# Altium schematic symbol library SYMBOL.SchLib: 147 symbols
Pins are listed as number, name and electrical type; pins without a type are passive.

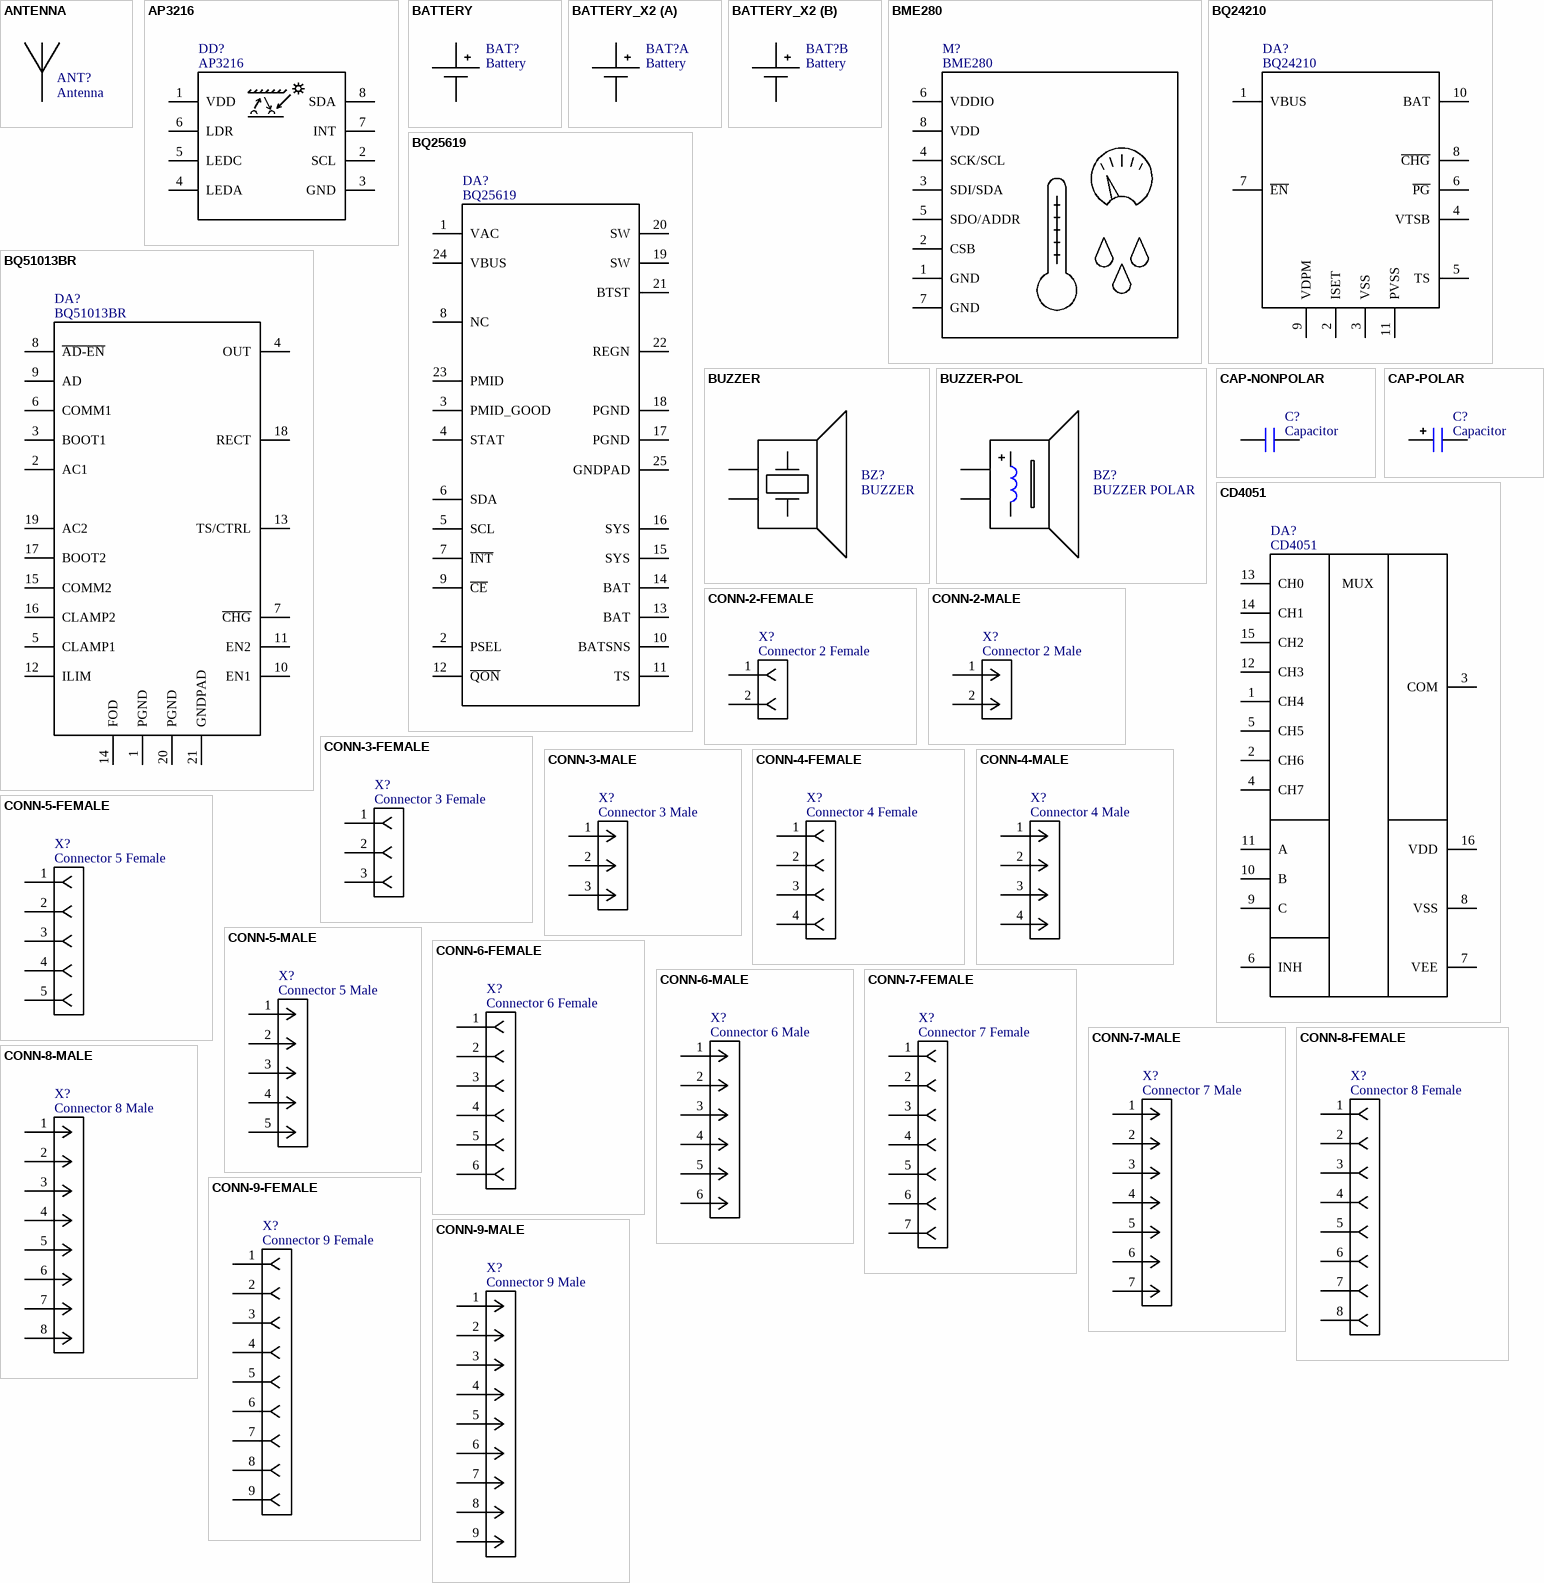
[diagram p0: symbols ANTENNA to CONN-9-MALE]

## ANTENNA
designator ANT?, comment Antenna  (no BOM)
pins: 1

## AP3216
designator DD?
Digital ambient light sensor, proximity sensor, and infrared sensor
pins: 1 VDD, 2 SCL, 3 GND, 4 LEDA, 5 LEDC, 6 LDR, 7 INT, 8 SDA

## BATTERY
designator BAT?, comment Battery
pins: 1, 2

## BATTERY_X2
designator BAT?, comment Battery
part A pins: 1, 2
part B pins: 3, 4

## BME280
designator M?
Temperature, Pressure, and Humidity sensor
pins: 1 GND, 2 CSB, 3 SDI/SDA, 4 SCK/SCL, 5 SDO/ADDR, 6 VDDIO, 7 GND, 8 VDD

## BQ24210
designator DA?
Single-Input, Single-Cell Li-Ion Battery Solar Charger
pins: 1 VBUS, 2 ISET, 3 VSS, 4 VTSB, 5 TS, 6 ~{PG}, 7 ~{EN}, 8 ~{CHG}, 9 VDPM, 10 BAT, 11 PVSS

## BQ25619
designator DA?
I2C Controlled1-Cell 1.5-A BatteryChargerwith 20-mATerminationand 1-ABoostOperation
pins: 1 VAC, 2 PSEL, 3 PMID_GOOD, 4 STAT, 5 SCL, 6 SDA, 7 ~{INT}, 8 NC, 9 ~{CE}, 10 BATSNS, 11 TS, 12 ~{QON}, 13 BAT, 14 BAT, 15 SYS, 16 SYS, 17 PGND, 18 PGND, 19 SW, 20 SW, 21 BTST, 22 REGN, 23 PMID, 24 VBUS, 25 GNDPAD

## BQ51013BR
designator DA?
Highly Integrated Wireless Receiver Qi (WPC v1.2) Compliant Power Supply
pins: 1 PGND, 2 AC1, 3 BOOT1, 4 OUT, 5 CLAMP1, 6 COMM1, 7 ~{CHG}, 8 ~{AD-EN}, 9 AD, 10 EN1, 11 EN2, 12 ILIM, 13 TS/CTRL, 14 FOD, 15 COMM2, 16 CLAMP2, 17 BOOT2, 18 RECT, 19 AC2, 20 PGND, 21 GNDPAD

## BUZZER
designator BZ?
pins: 1, 2

## BUZZER-POL
designator BZ?, comment BUZZER POLAR
pins: 1, 2

## CAP-NONPOLAR
designator C?, comment Capacitor
Capacitor non-polar
pins: 1, 2

## CAP-POLAR
designator C?, comment Capacitor
Capacitor polar
pins: 1 P, 2 N

## CD4051
designator DA?
CMOS one 8-channel multiplexer.
pins: 1 CH4, 2 CH6, 3 COM, 4 CH7, 5 CH5, 6 INH, 7 VEE, 8 VSS, 9 C, 10 B, 11 A, 12 CH3, 13 CH0, 14 CH1, 15 CH2, 16 VDD
text: MUX

## CONN-2-FEMALE
designator X?, comment Connector 2 Female
2-pin female connector
pins: 1, 2

## CONN-2-MALE
designator X?, comment Connector 2 Male
2-pin male connector
pins: 1, 2

## CONN-3-FEMALE
designator X?, comment Connector 3 Female
3-pin female connector
pins: 1, 2, 3

## CONN-3-MALE
designator X?, comment Connector 3 Male
3-pin male connector
pins: 1, 2, 3

## CONN-4-FEMALE
designator X?, comment Connector 4 Female
4-pin female connector
pins: 1, 2, 3, 4

## CONN-4-MALE
designator X?, comment Connector 4 Male
4-pin male connector
pins: 1, 2, 3, 4

## CONN-5-FEMALE
designator X?, comment Connector 5 Female
5-pin female connector
pins: 1, 2, 3, 4, 5

## CONN-5-MALE
designator X?, comment Connector 5 Male
5-pin male connector
pins: 1, 2, 3, 4, 5

## CONN-6-FEMALE
designator X?, comment Connector 6 Female
6-pin female connector
pins: 1, 2, 3, 4, 5, 6

## CONN-6-MALE
designator X?, comment Connector 6 Male
6-pin male connector
pins: 1, 2, 3, 4, 5, 6

## CONN-7-FEMALE
designator X?, comment Connector 7 Female
7-pin female connector
pins: 1, 2, 3, 4, 5, 6, 7

## CONN-7-MALE
designator X?, comment Connector 7 Male
7-pin male connector
pins: 1, 2, 3, 4, 5, 6, 7

## CONN-8-FEMALE
designator X?, comment Connector 8 Female
8-pin female connector
pins: 1, 2, 3, 4, 5, 6, 7, 8

## CONN-8-MALE
designator X?, comment Connector 8 Male
8-pin male connector
pins: 1, 2, 3, 4, 5, 6, 7, 8

## CONN-9-FEMALE
designator X?, comment Connector 9 Female
9-pin female connector
pins: 1, 2, 3, 4, 5, 6, 7, 8, 9

## CONN-9-MALE
designator X?, comment Connector 9 Male
9-pin male connector
pins: 1, 2, 3, 4, 5, 6, 7, 8, 9

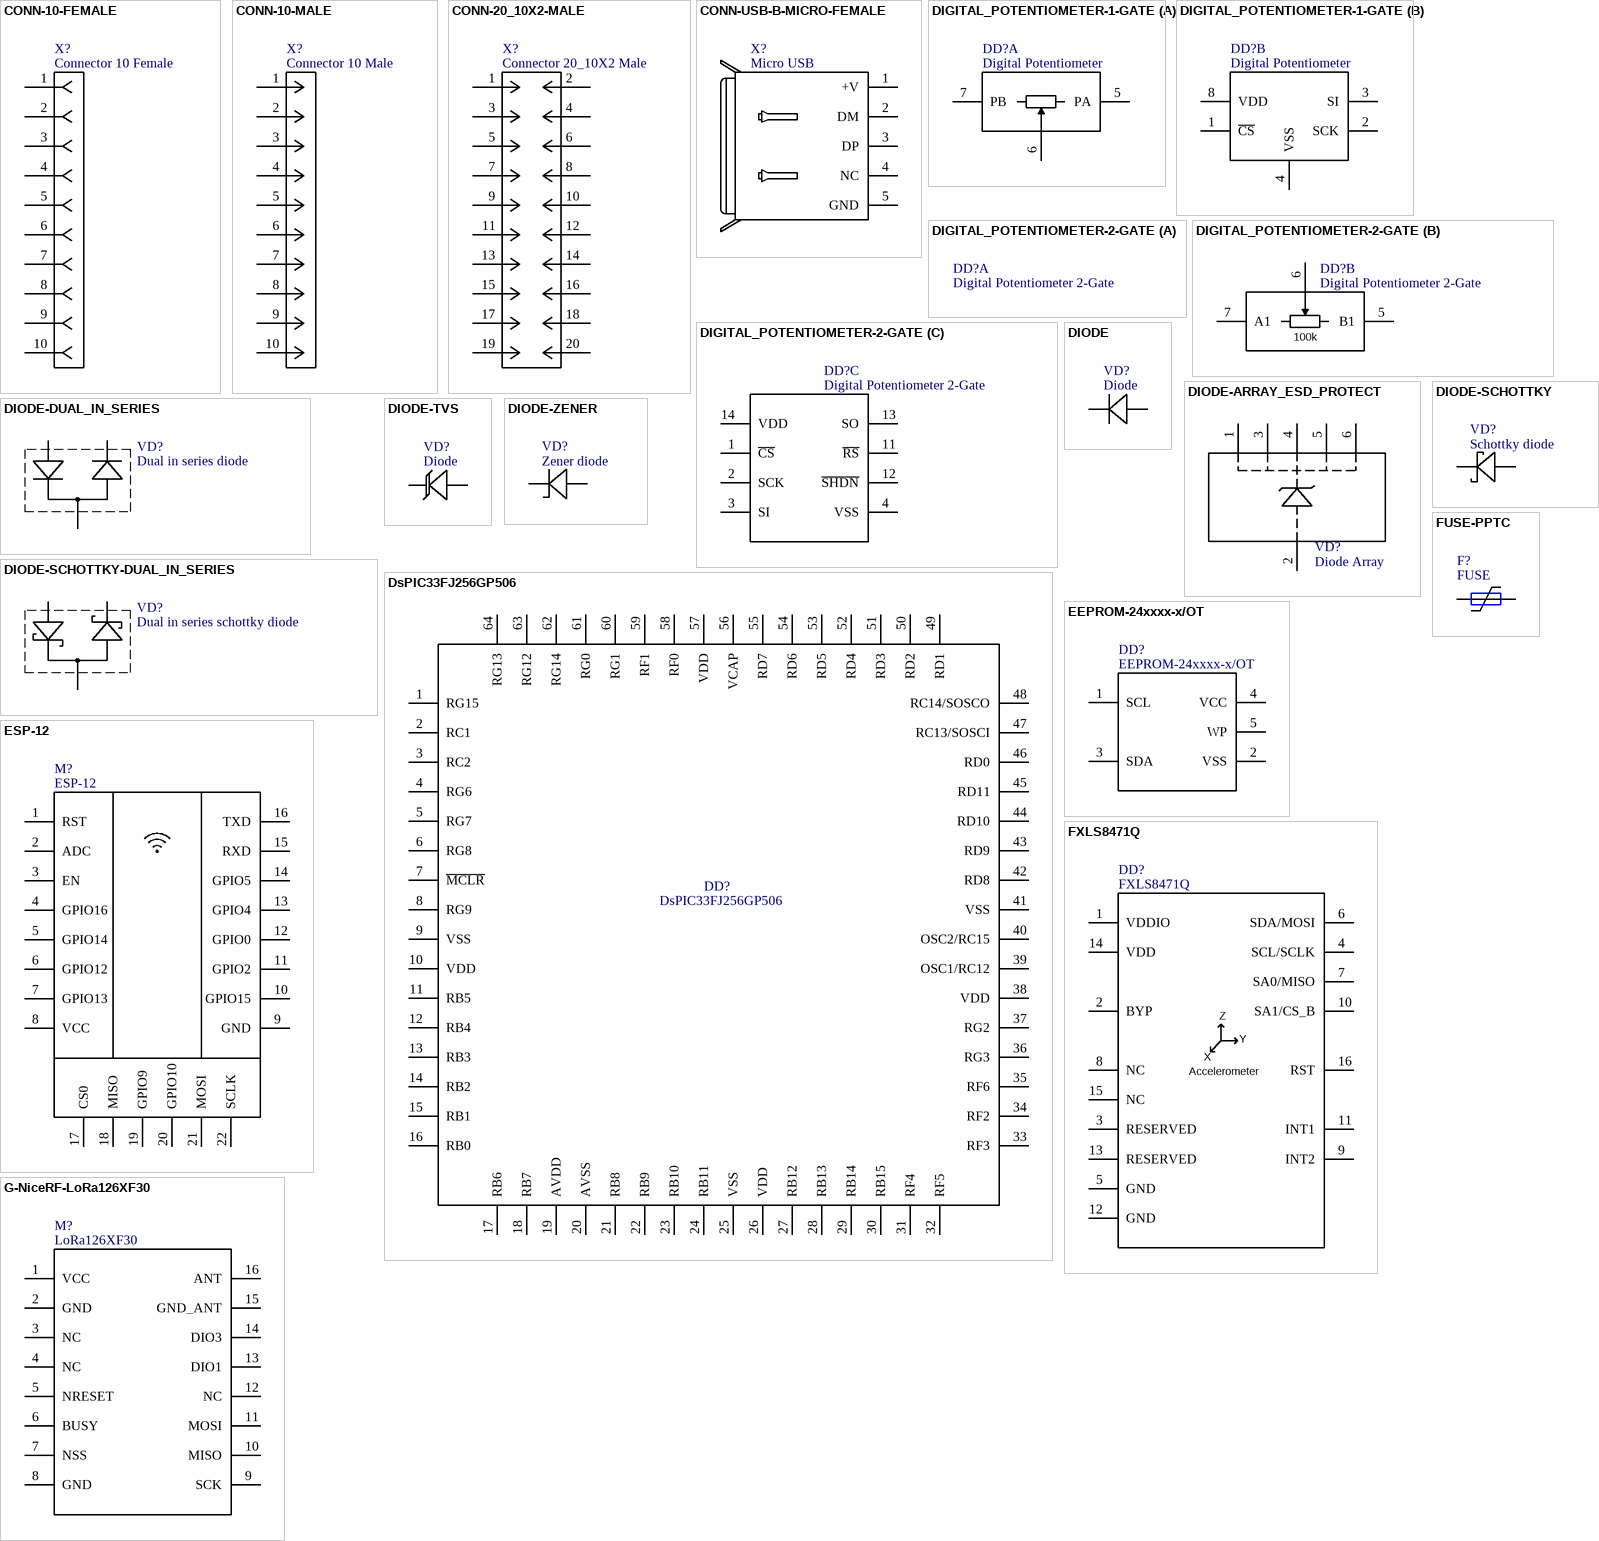
[diagram p1: symbols CONN-10-FEMALE to G-NiceRF-LoRa126XF30]

## CONN-10-FEMALE
designator X?, comment Connector 10 Female
10-pin female connector
pins: 1, 2, 3, 4, 5, 6, 7, 8, 9, 10

## CONN-10-MALE
designator X?, comment Connector 10 Male
10-pin male connector
pins: 1, 2, 3, 4, 5, 6, 7, 8, 9, 10

## CONN-20_10X2-MALE
designator X?, comment Connector 20_10X2 Male
20-pin male connector
pins: 1, 2, 3, 4, 5, 6, 7, 8, 9, 10, 11, 12, 13, 14, 15, 16, 17, 18, 19, 20

## CONN-USB-B-MICRO-FEMALE
designator X?, comment Micro USB
Connector USB, Type B, Female, Micro
pins: 1 +V, 2 DM, 3 DP, 4 NC, 5 GND

## DIGITAL_POTENTIOMETER-1-GATE
designator DD?, comment Digital Potentiometer
1-Gate Digital Potentiometer
part A pins: 5 PA, 6 PW, 7 PB
part B pins: 1 ~{CS}, 2 SCK, 3 SI, 4 VSS, 8 VDD

## DIGITAL_POTENTIOMETER-2-GATE
designator DD?, comment Digital Potentiometer 2-Gate
2-Gate Digital Potentiometer
part B pins: 5 B1, 6 W1, 7 A1
part C pins: 1 ~{CS}, 2 SCK, 3 SI, 4 VSS, 11 ~{RS}, 12 ~{SHDN}, 13 SO, 14 VDD
part B text: 100k

## DIODE
designator VD?, comment Diode
Simple Diode
pins: 1 Cathode, 2 Anode

## DIODE-ARRAY_ESD_PROTECT
designator VD?, comment Diode Array
ESD Protection diode Array
pins: 1, 2, 3, 4, 5, 6

## DIODE-DUAL_IN_SERIES
designator VD?, comment Dual in series diode
pins: 1 Anode, 2 Cathode, 3 Common

## DIODE-SCHOTTKY
designator VD?, comment Schottky diode
pins: 1 Cathode, 2 Anode

## DIODE-SCHOTTKY-DUAL_IN_SERIES
designator VD?, comment Dual in series schottky diode
pins: 1 Anode, 2 Cathode, 3 Common

## DIODE-TVS
designator VD?, comment Diode
Transient Voltage Suppressors
pins: 1 Cathode, 2 Anode

## DIODE-ZENER
designator VD?, comment Zener diode
pins: 1 Cathode, 2 Anode

## DsPIC33FJ256GP506
designator DD?
Digital Signal Processor
pins: 1 RG15, 2 RC1, 3 RC2, 4 RG6, 5 RG7, 6 RG8, 7 ~{MCLR}, 8 RG9, 9 VSS, 10 VDD, 11 RB5, 12 RB4, 13 RB3, 14 RB2, 15 RB1, 16 RB0, 17 RB6, 18 RB7, 19 AVDD, 20 AVSS, 21 RB8, 22 RB9, 23 RB10, 24 RB11, 25 VSS, 26 VDD, 27 RB12, 28 RB13, 29 RB14, 30 RB15, 31 RF4, 32 RF5, 33 RF3, 34 RF2, 35 RF6, 36 RG3, 37 RG2, 38 VDD, 39 OSC1/RC12, 40 OSC2/RC15, 41 VSS, 42 RD8, 43 RD9, 44 RD10, 45 RD11, 46 RD0, 47 RC13/SOSCI, 48 RC14/SOSCO, 49 RD1, 50 RD2, 51 RD3, 52 RD4, 53 RD5, 54 RD6, 55 RD7, 56 VCAP, 57 VDD, 58 RF0, 59 RF1, 60 RG1, 61 RG0, 62 RG14, 63 RG12, 64 RG13

## EEPROM-24xxxx-x/OT
designator DD?
I2C serial EEPROM in SOT-23-5 package
pins: 1 SCL, 2 VSS, 3 SDA, 4 VCC, 5 WP

## ESP-12
designator M?
WiFi module supports IEEE802.11 b/g/n protocol, complete TCP/IP protocol stack.
pins: 1 RST, 2 ADC, 3 EN, 4 GPIO16, 5 GPIO14, 6 GPIO12, 7 GPIO13, 8 VCC, 9 GND, 10 GPIO15, 11 GPIO2, 12 GPIO0, 13 GPIO4, 14 GPIO5, 15 RXD, 16 TXD, 17 CS0, 18 MISO, 19 GPIO9, 20 GPIO10, 21 MOSI, 22 SCLK

## FUSE-PPTC
designator F?, comment FUSE
PPTC Resetable Fuse
pins: 1, 2

## FXLS8471Q
designator DD?
3-Axis, Linear Accelerometer
pins: 1 VDDIO, 2 BYP, 3 RESERVED, 4 SCL/SCLK, 5 GND, 6 SDA/MOSI, 7 SA0/MISO, 8 NC, 9 INT2, 10 SA1/CS_B, 11 INT1, 12 GND, 13 RESERVED, 14 VDD, 15 NC, 16 RST
text: Z; Y; X; Accelerometer

## G-NiceRF-LoRa126XF30
designator M?, comment LoRa126XF30
G-NiceRF LoRa126X
pins: 1 VCC, 2 GND, 3 NC, 4 NC, 5 NRESET, 6 BUSY, 7 NSS, 8 GND, 9 SCK, 10 MISO, 11 MOSI, 12 NC, 13 DIO1, 14 DIO3, 15 GND_ANT, 16 ANT

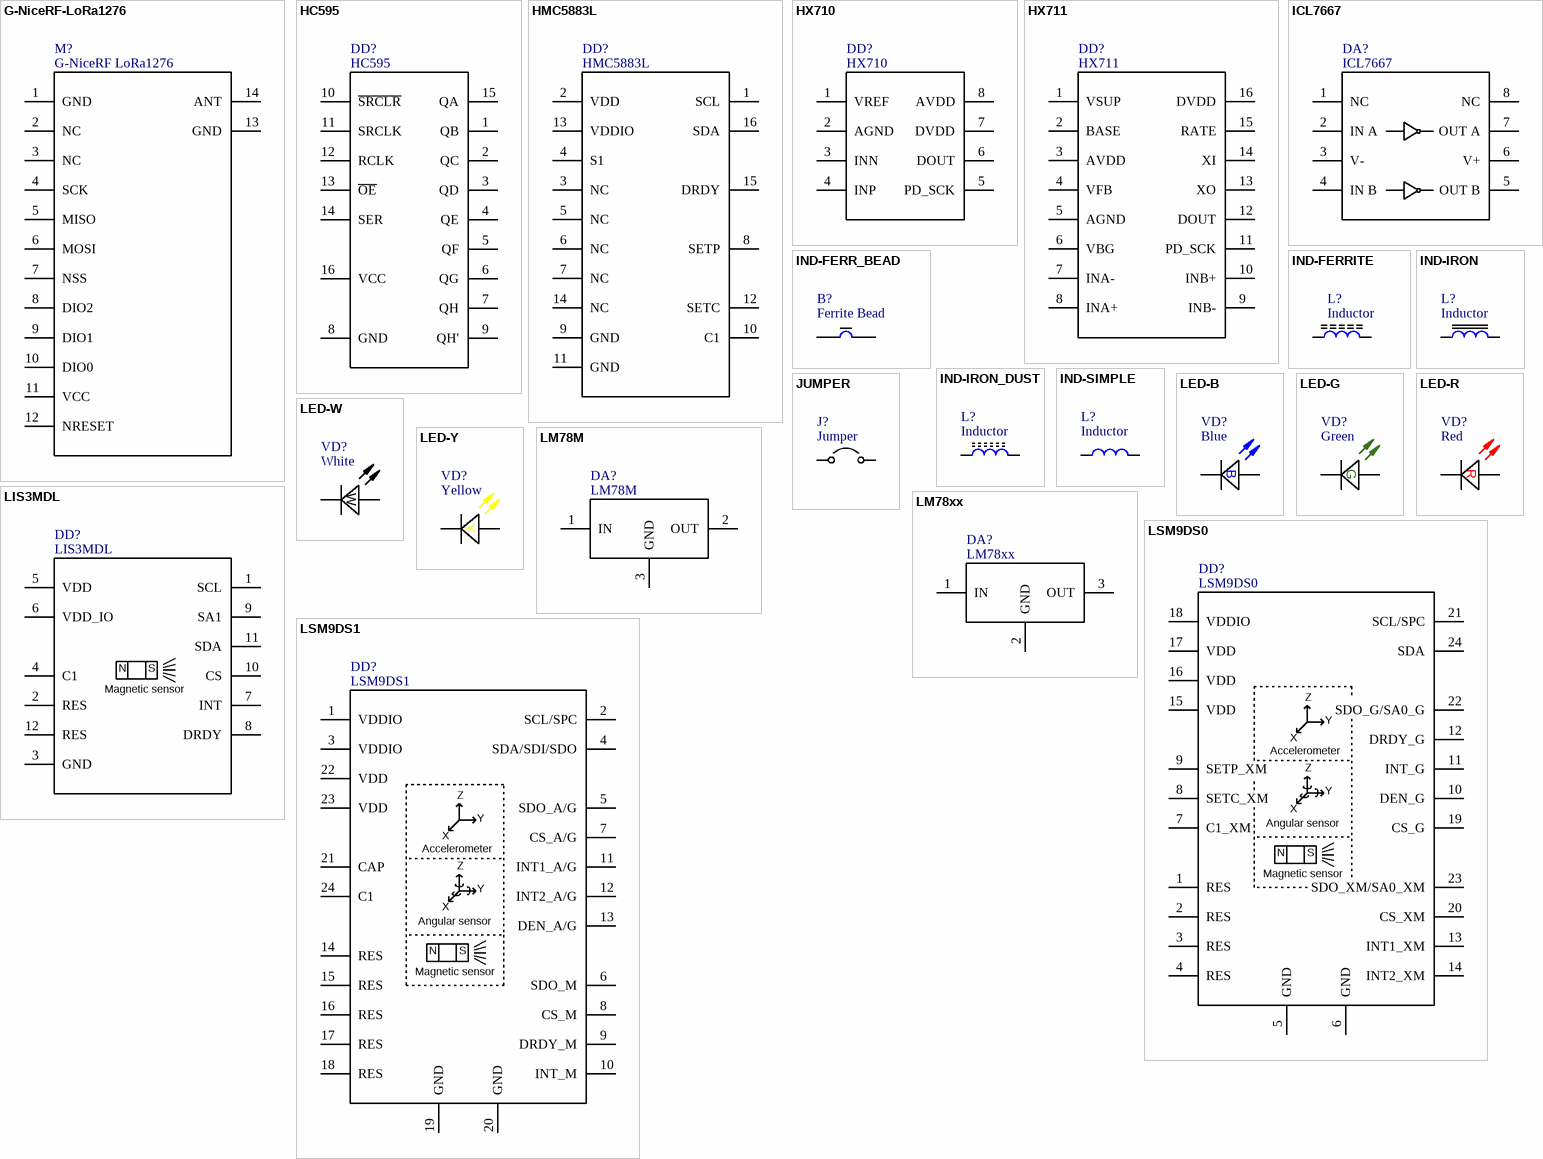
[diagram p2: symbols G-NiceRF-LoRa1276 to LSM9DS1]

## G-NiceRF-LoRa1276
designator M?, comment G-NiceRF LoRa1276
pins: 1 GND, 2 NC, 3 NC, 4 SCK, 5 MISO, 6 MOSI, 7 NSS, 8 DIO2, 9 DIO1, 10 DIO0, 11 VCC, 12 NRESET, 13 GND, 14 ANT

## HC595
designator DD?
Shift register
pins: 1 QB, 2 QC, 3 QD, 4 QE, 5 QF, 6 QG, 7 QH, 8 GND, 9 QH', 10 ~{SRCLR}, 11 SRCLK, 12 RCLK, 13 ~{OE}, 14 SER, 15 QA, 16 VCC

## HMC5883L
designator DD?
3-Axis Digital Compass
pins: 1 SCL, 2 VDD, 3 NC, 4 S1, 5 NC, 6 NC, 7 NC, 8 SETP, 9 GND, 10 C1, 11 GND, 12 SETC, 13 VDDIO, 14 NC, 15 DRDY, 16 SDA

## HX710
designator DD?
24-Bit Analog-to-Digital Converter (ADC) for Weigh Scales
pins: 1 VREF, 2 AGND, 3 INN, 4 INP, 5 PD_SCK, 6 DOUT, 7 DVDD, 8 AVDD

## HX711
designator DD?
24-Bit Analog-to-Digital Converter (ADC) for Weigh Scales
pins: 1 VSUP, 2 BASE, 3 AVDD, 4 VFB, 5 AGND, 6 VBG, 7 INA-, 8 INA+, 9 INB-, 10 INB+, 11 PD_SCK, 12 DOUT, 13 XO, 14 XI, 15 RATE, 16 DVDD

## ICL7667
designator DA?
Dual Power MOSFET Driver
pins: 1 NC, 2 IN A, 3 V-, 4 IN B, 5 OUT B, 6 V+, 7 OUT A, 8 NC

## IND-FERR_BEAD
designator B?, comment Ferrite Bead
pins: 1, 2

## IND-FERRITE
designator L?, comment Inductor
Ferrite core inductor
pins: 1, 2

## IND-IRON
designator L?, comment Inductor
Iron core inductor
pins: 1, 2

## IND-IRON_DUST
designator L?, comment Inductor
Iron dust core inductor
pins: 1, 2

## IND-SIMPLE
designator L?, comment Inductor
Simple inductor
pins: 1, 2

## JUMPER
designator J?, comment Jumper
pins: 1, 2

## LED-B
designator VD?, comment Blue
Blue LED
pins: 1 Cathode, 2 Anode
text: B

## LED-G
designator VD?, comment Green
Green LED
pins: 1 Cathode, 2 Anode
text: G

## LED-R
designator VD?, comment Red
Red LED
pins: 1 Cathode, 2 Anode
text: R

## LED-W
designator VD?, comment White
White LED
pins: 1 Cathode, 2 Anode
text: W

## LED-Y
designator VD?, comment Yellow
Yellow LED
pins: 1 Cathode, 2 Anode
text: Y

## LIS3MDL
designator DD?
ultralow-power, high-performance 3-axis magnetometer
pins: 1 SCL, 2 RES, 3 GND, 4 C1, 5 VDD, 6 VDD_IO, 7 INT, 8 DRDY, 9 SA1, 10 CS, 11 SDA, 12 RES
text: N; S; Magnetic sensor

## LM78M
designator DA?
pins: 1 IN, 2 OUT, 3 GND

## LM78xx
designator DA?
pins: 1 IN, 2 GND, 3 OUT, 4 TAB

## LSM9DS0
designator DD?
3D accelerometer, 3D hyroscope, 3D magnetometer in LGA-24L package
pins: 1 RES, 2 RES, 3 RES, 4 RES, 5 GND, 6 GND, 7 C1_XM, 8 SETC_XM, 9 SETP_XM, 10 DEN_G, 11 INT_G, 12 DRDY_G, 13 INT1_XM, 14 INT2_XM, 15 VDD, 16 VDD, 17 VDD, 18 VDDIO, 19 CS_G, 20 CS_XM, 21 SCL/SPC, 22 SDO_G/SA0_G, 23 SDO_XM/SA0_XM, 24 SDA
text: Z; Y; X; Accelerometer; Angular sensor; N; S; Magnetic sensor

## LSM9DS1
designator DD?
3D accelerometer, 3D hyroscope, 3D magnetometer in LGA-24L package
pins: 1 VDDIO, 2 SCL/SPC, 3 VDDIO, 4 SDA/SDI/SDO, 5 SDO_A/G, 6 SDO_M, 7 CS_A/G, 8 CS_M, 9 DRDY_M, 10 INT_M, 11 INT1_A/G, 12 INT2_A/G, 13 DEN_A/G, 14 RES, 15 RES, 16 RES, 17 RES, 18 RES, 19 GND, 20 GND, 21 CAP, 22 VDD, 23 VDD, 24 C1
text: Z; Y; X; Accelerometer; Angular sensor; N; S; Magnetic sensor

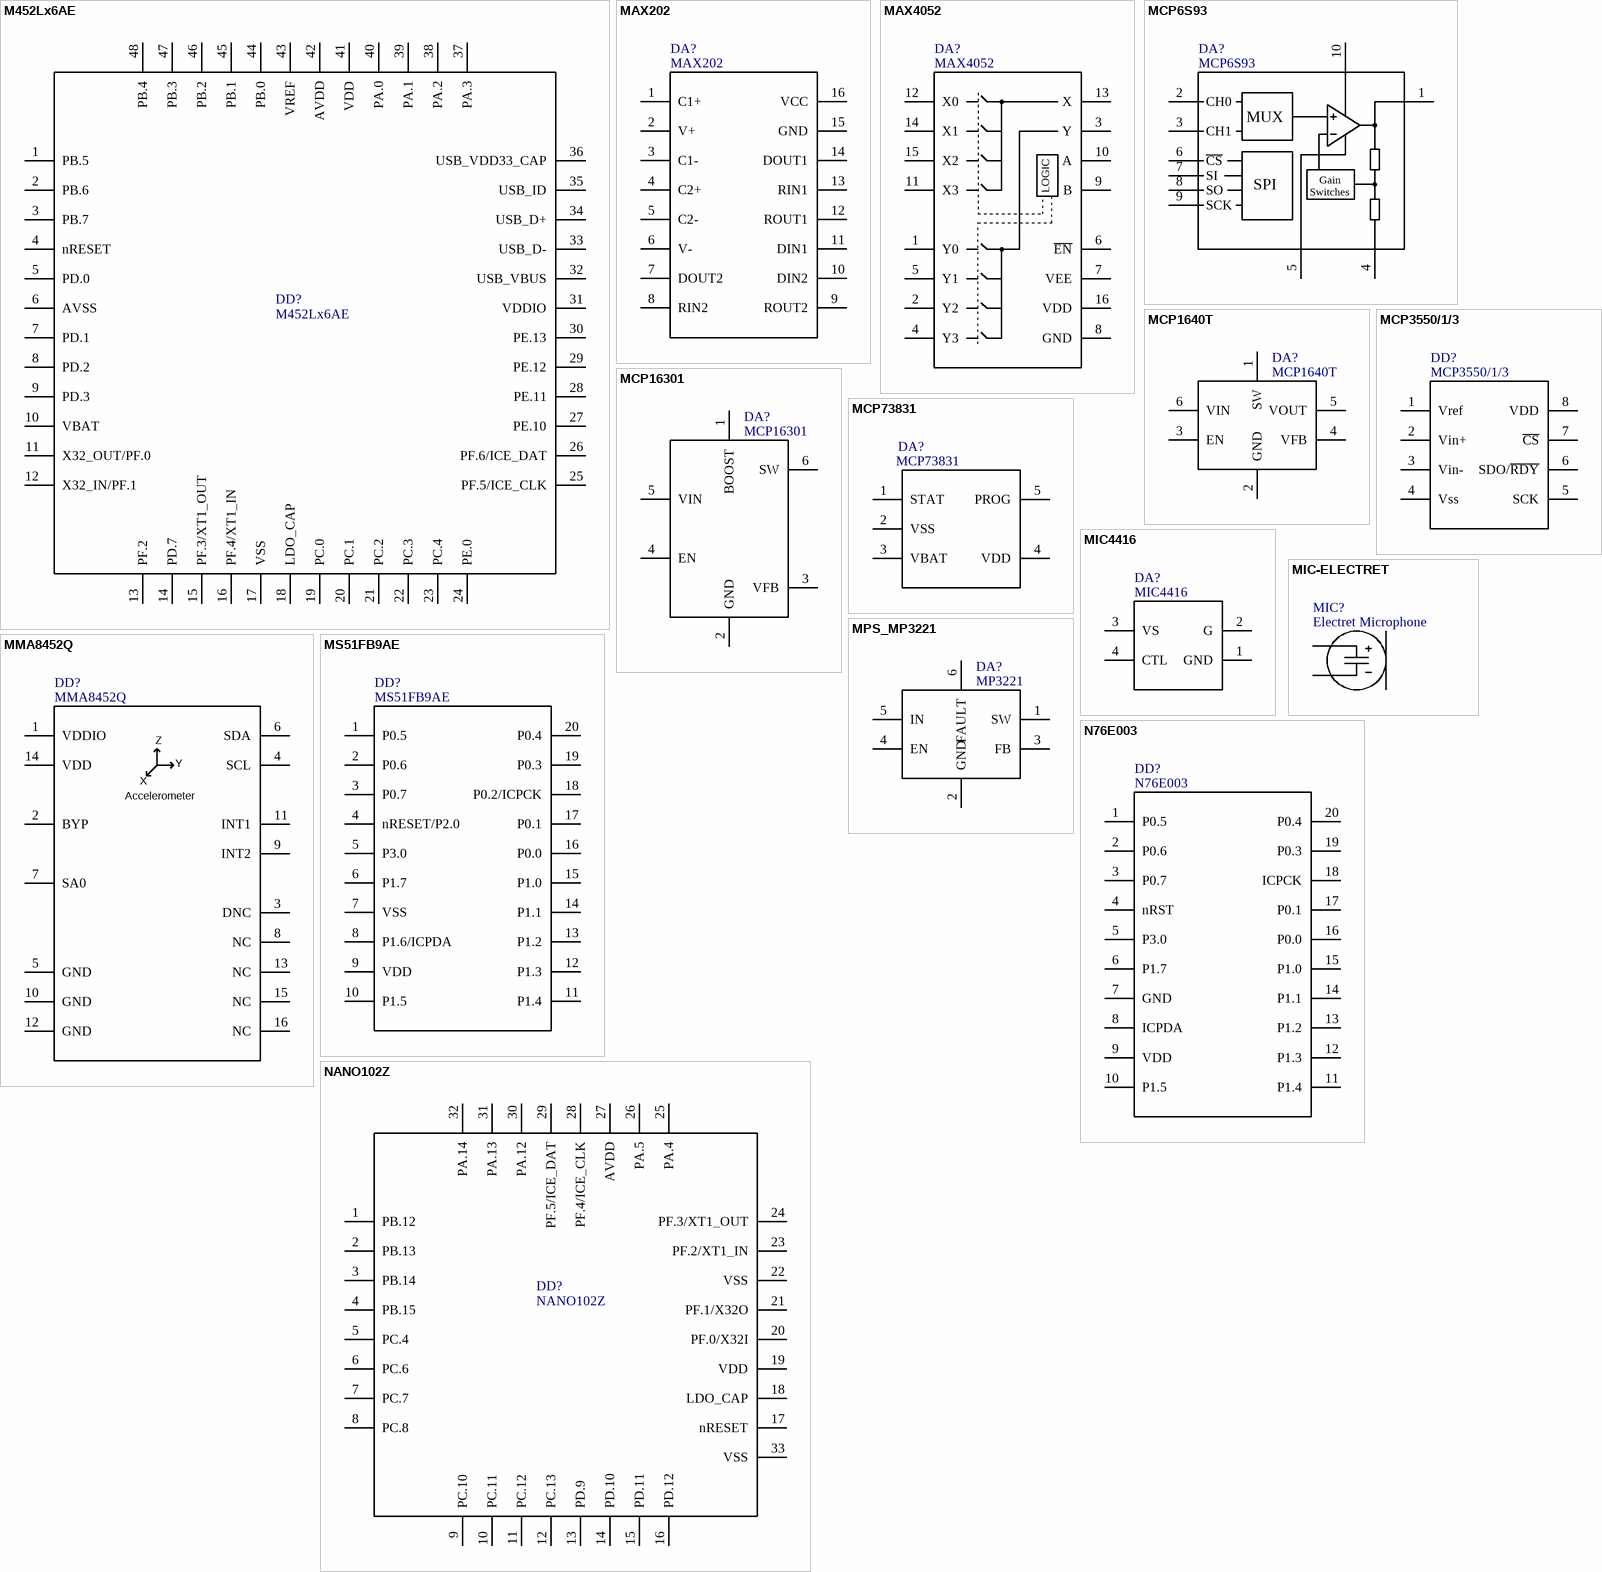
[diagram p3: symbols M452Lx6AE to NANO102Z]

## M452Lx6AE
designator DD?
pins: 1 PB.5, 2 PB.6, 3 PB.7, 4 nRESET, 5 PD.0, 6 AVSS, 7 PD.1, 8 PD.2, 9 PD.3, 10 VBAT, 11 X32_OUT/PF.0, 12 X32_IN/PF.1, 13 PF.2, 14 PD.7, 15 PF.3/XT1_OUT, 16 PF.4/XT1_IN, 17 VSS, 18 LDO_CAP, 19 PC.0, 20 PC.1, 21 PC.2, 22 PC.3, 23 PC.4, 24 PE.0, 25 PF.5/ICE_CLK, 26 PF.6/ICE_DAT, 27 PE.10, 28 PE.11, 29 PE.12, 30 PE.13, 31 VDDIO, 32 USB_VBUS, 33 USB_D-, 34 USB_D+, 35 USB_ID, 36 USB_VDD33_CAP, 37 PA.3, 38 PA.2, 39 PA.1, 40 PA.0, 41 VDD, 42 AVDD, 43 VREF, 44 PB.0, 45 PB.1, 46 PB.2, 47 PB.3, 48 PB.4

## MAX202
designator DA?
pins: 1 C1+, 2 V+, 3 C1-, 4 C2+, 5 C2-, 6 V-, 7 DOUT2, 8 RIN2, 9 ROUT2, 10 DIN2, 11 DIN1, 12 ROUT1, 13 RIN1, 14 DOUT1, 15 GND, 16 VCC

## MAX4052
designator DA?
CMOS two 4-channel multiplexers.
pins: 1 Y0, 2 Y2, 3 Y, 4 Y3, 5 Y1, 6 ~{EN}, 7 VEE, 8 GND, 9 B, 10 A, 11 X3, 12 X0, 13 X, 14 X1, 15 X2, 16 VDD
text: LOGIC

## MCP6S93
designator DA?
pins: 1 VOUT, 2 CH0, 3 CH1, 4 VREF, 5 VSS, 6 ~{CS}, 7 SI, 8 SO, 9 SCK, 10 VDD
text: MUX; SPI; Gain / Switches

## MCP1640T
designator DA?
0.65V Start-Up Synchronous Boost Regulator with True Output Disconnect or Input/Output Bypass Option.
pins: 1 SW, 2 GND, 3 EN, 4 VFB, 5 VOUT, 6 VIN

## MCP3550/1/3
designator DD?
Low-Power, Single-Channel 22-Bit Delta-Sigma ADC
pins: 1 Vref, 2 Vin+, 3 Vin-, 4 Vss, 5 SCK, 6 SDO/~{RDY}, 7 ~{CS}, 8 VDD

## MCP16301
designator DA?
Fixed-frequency, step down DC-DC in a 6-pin SOT-23, input voltage up to 36V.
pins: 1 BOOST, 2 GND, 3 VFB, 4 EN, 5 VIN, 6 SW

## MCP73831
designator DA?
Li-Ion/Polymer Charge Management Controller
pins: 1 STAT, 2 VSS, 3 VBAT, 4 VDD, 5 PROG

## MIC4416
designator DA?
Low-side MOSFET driver, switch N-channel MOSFET.
pins: 1 GND, 2 G, 3 VS, 4 CTL

## MIC-ELECTRET
designator MIC?, comment Electret Microphone
Microphone Electret
pins: 1 +, 2 -

## MMA8452Q
designator DD?
Digital accelerometer
pins: 1 VDDIO, 2 BYP, 3 DNC, 4 SCL, 5 GND, 6 SDA, 7 SA0, 8 NC, 9 INT2, 10 GND, 11 INT1, 12 GND, 13 NC, 14 VDD, 15 NC, 16 NC
text: Z; Y; X; Accelerometer

## MPS_MP3221
designator DA?, comment MP3221
pins: 1 SW, 2 GND, 3 FB, 4 EN, 5 IN, 6 FAULT

## MS51FB9AE
designator DD?
8051 8-bit Microcontroller
pins: 1 P0.5, 2 P0.6, 3 P0.7, 4 nRESET/P2.0, 5 P3.0, 6 P1.7, 7 VSS, 8 P1.6/ICPDA, 9 VDD, 10 P1.5, 11 P1.4, 12 P1.3, 13 P1.2, 14 P1.1, 15 P1.0, 16 P0.0, 17 P0.1, 18 P0.2/ICPCK, 19 P0.3, 20 P0.4

## N76E003
designator DD?
8-bit high performance 1T 8051-based microcontroller
pins: 1 P0.5, 2 P0.6, 3 P0.7, 4 nRST, 5 P3.0, 6 P1.7, 7 GND, 8 ICPDA, 9 VDD, 10 P1.5, 11 P1.4, 12 P1.3, 13 P1.2, 14 P1.1, 15 P1.0, 16 P0.0, 17 P0.1, 18 ICPCK, 19 P0.3, 20 P0.4

## NANO102Z
designator DD?
ARM Cortex M0, ultra low-power
pins: 1 PB.12, 2 PB.13, 3 PB.14, 4 PB.15, 5 PC.4, 6 PC.6, 7 PC.7, 8 PC.8, 9 PC.10, 10 PC.11, 11 PC.12, 12 PC.13, 13 PD.9, 14 PD.10, 15 PD.11, 16 PD.12, 17 nRESET, 18 LDO_CAP, 19 VDD, 20 PF.0/X32I, 21 PF.1/X32O, 22 VSS, 23 PF.2/XT1_IN, 24 PF.3/XT1_OUT, 25 PA.4, 26 PA.5, 27 AVDD, 28 PF.4/ICE_CLK, 29 PF.5/ICE_DAT, 30 PA.12, 31 PA.13, 32 PA.14, 33 VSS

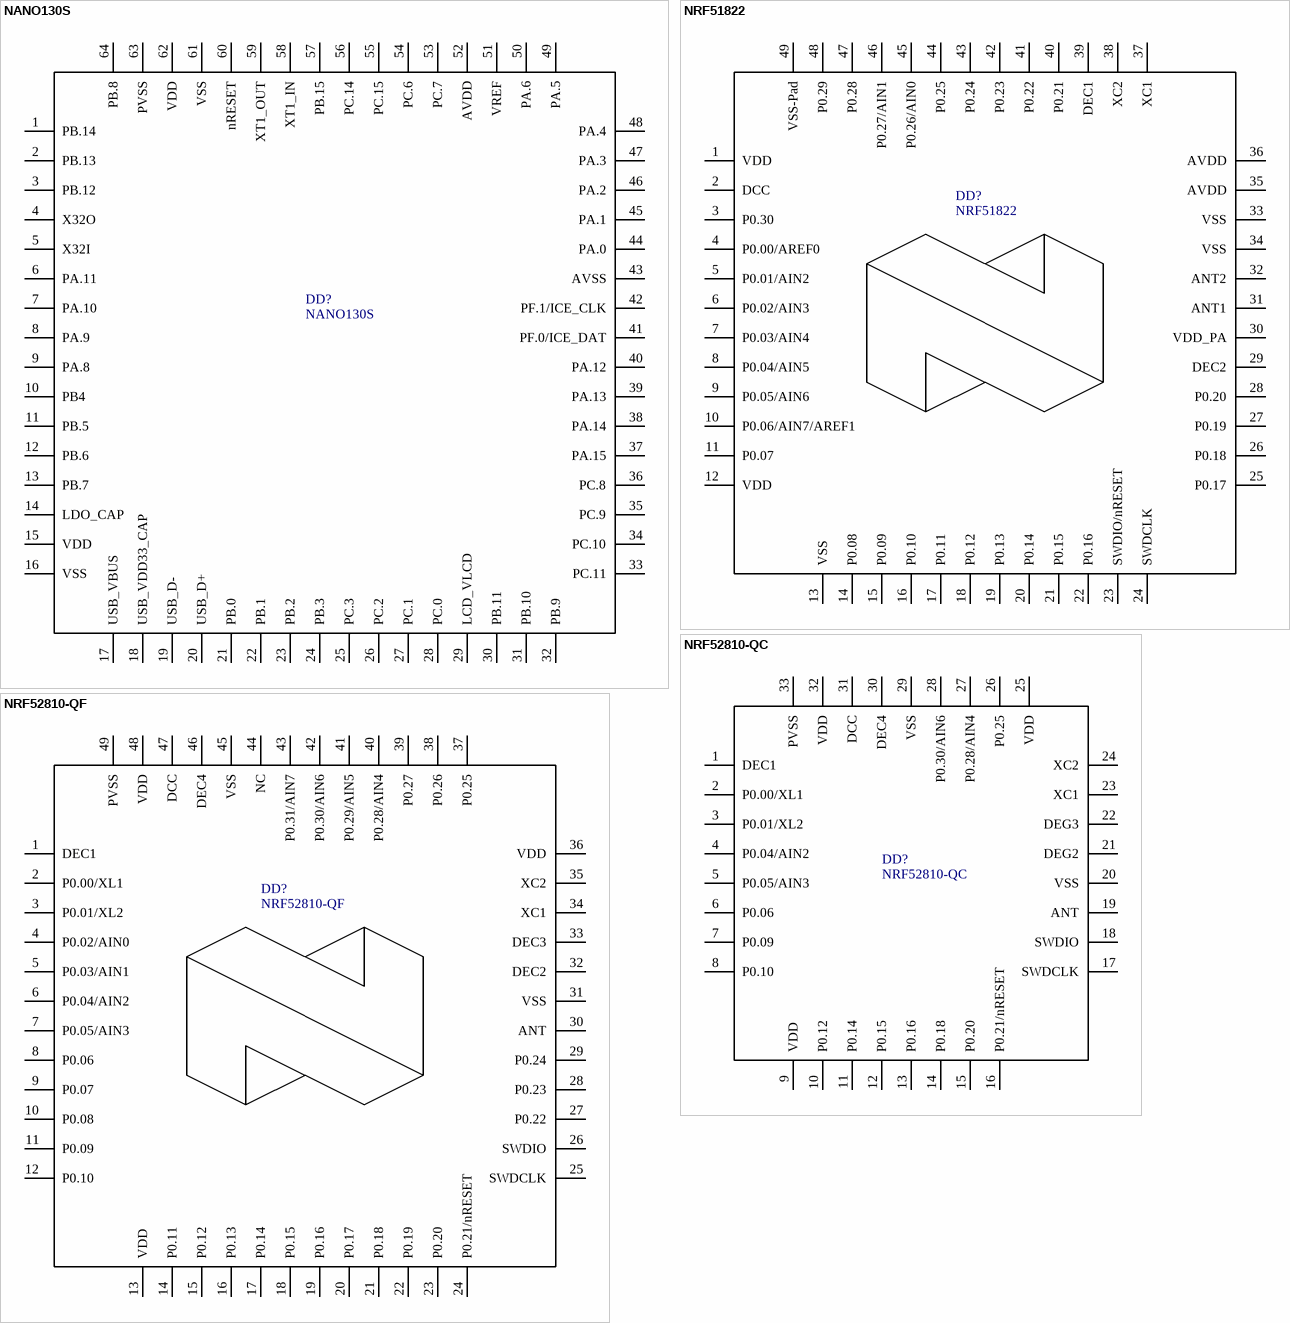
[diagram p4: symbols NANO130S to NRF52810-QF]

## NANO130S
designator DD?
ARM Cortex M0, ultra low-power
pins: 1 PB.14, 2 PB.13, 3 PB.12, 4 X32O, 5 X32I, 6 PA.11, 7 PA.10, 8 PA.9, 9 PA.8, 10 PB4, 11 PB.5, 12 PB.6, 13 PB.7, 14 LDO_CAP, 15 VDD, 16 VSS, 17 USB_VBUS, 18 USB_VDD33_CAP, 19 USB_D-, 20 USB_D+, 21 PB.0, 22 PB.1, 23 PB.2, 24 PB.3, 25 PC.3, 26 PC.2, 27 PC.1, 28 PC.0, 29 LCD_VLCD, 30 PB.11, 31 PB.10, 32 PB.9, 33 PC.11, 34 PC.10, 35 PC.9, 36 PC.8, 37 PA.15, 38 PA.14, 39 PA.13, 40 PA.12, 41 PF.0/ICE_DAT, 42 PF.1/ICE_CLK, 43 AVSS, 44 PA.0, 45 PA.1, 46 PA.2, 47 PA.3, 48 PA.4, 49 PA.5, 50 PA.6, 51 VREF, 52 AVDD, 53 PC.7, 54 PC.6, 55 PC.15, 56 PC.14, 57 PB.15, 58 XT1_IN, 59 XT1_OUT, 60 nRESET, 61 VSS, 62 VDD, 63 PVSS, 64 PB.8

## NRF51822
designator DD?
ARM Cortex M0, BLE, QFN48
pins: 1 VDD, 2 DCC, 3 P0.30, 4 P0.00/AREF0, 5 P0.01/AIN2, 6 P0.02/AIN3, 7 P0.03/AIN4, 8 P0.04/AIN5, 9 P0.05/AIN6, 10 P0.06/AIN7/AREF1, 11 P0.07, 12 VDD, 13 VSS, 14 P0.08, 15 P0.09, 16 P0.10, 17 P0.11, 18 P0.12, 19 P0.13, 20 P0.14, 21 P0.15, 22 P0.16, 23 SWDIO/nRESET, 24 SWDCLK, 25 P0.17, 26 P0.18, 27 P0.19, 28 P0.20, 29 DEC2, 30 VDD_PA, 31 ANT1, 32 ANT2, 33 VSS, 34 VSS, 35 AVDD, 36 AVDD, 37 XC1, 38 XC2, 39 DEC1, 40 P0.21, 41 P0.22, 42 P0.23, 43 P0.24, 44 P0.25, 45 P0.26/AIN0, 46 P0.27/AIN1, 47 P0.28, 48 P0.29, 49 VSS-Pad

## NRF52810-QC
designator DD?
pins: 1 DEC1, 2 P0.00/XL1, 3 P0.01/XL2, 4 P0.04/AIN2, 5 P0.05/AIN3, 6 P0.06, 7 P0.09, 8 P0.10, 9 VDD, 10 P0.12, 11 P0.14, 12 P0.15, 13 P0.16, 14 P0.18, 15 P0.20, 16 P0.21/nRESET, 17 SWDCLK, 18 SWDIO, 19 ANT, 20 VSS, 21 DEG2, 22 DEG3, 23 XC1, 24 XC2, 25 VDD, 26 P0.25, 27 P0.28/AIN4, 28 P0.30/AIN6, 29 VSS, 30 DEC4, 31 DCC, 32 VDD, 33 PVSS

## NRF52810-QF
designator DD?
pins: 1 DEC1, 2 P0.00/XL1, 3 P0.01/XL2, 4 P0.02/AIN0, 5 P0.03/AIN1, 6 P0.04/AIN2, 7 P0.05/AIN3, 8 P0.06, 9 P0.07, 10 P0.08, 11 P0.09, 12 P0.10, 13 VDD, 14 P0.11, 15 P0.12, 16 P0.13, 17 P0.14, 18 P0.15, 19 P0.16, 20 P0.17, 21 P0.18, 22 P0.19, 23 P0.20, 24 P0.21/nRESET, 25 SWDCLK, 26 SWDIO, 27 P0.22, 28 P0.23, 29 P0.24, 30 ANT, 31 VSS, 32 DEC2, 33 DEC3, 34 XC1, 35 XC2, 36 VDD, 37 P0.25, 38 P0.26, 39 P0.27, 40 P0.28/AIN4, 41 P0.29/AIN5, 42 P0.30/AIN6, 43 P0.31/AIN7, 44 NC, 45 VSS, 46 DEC4, 47 DCC, 48 VDD, 49 PVSS

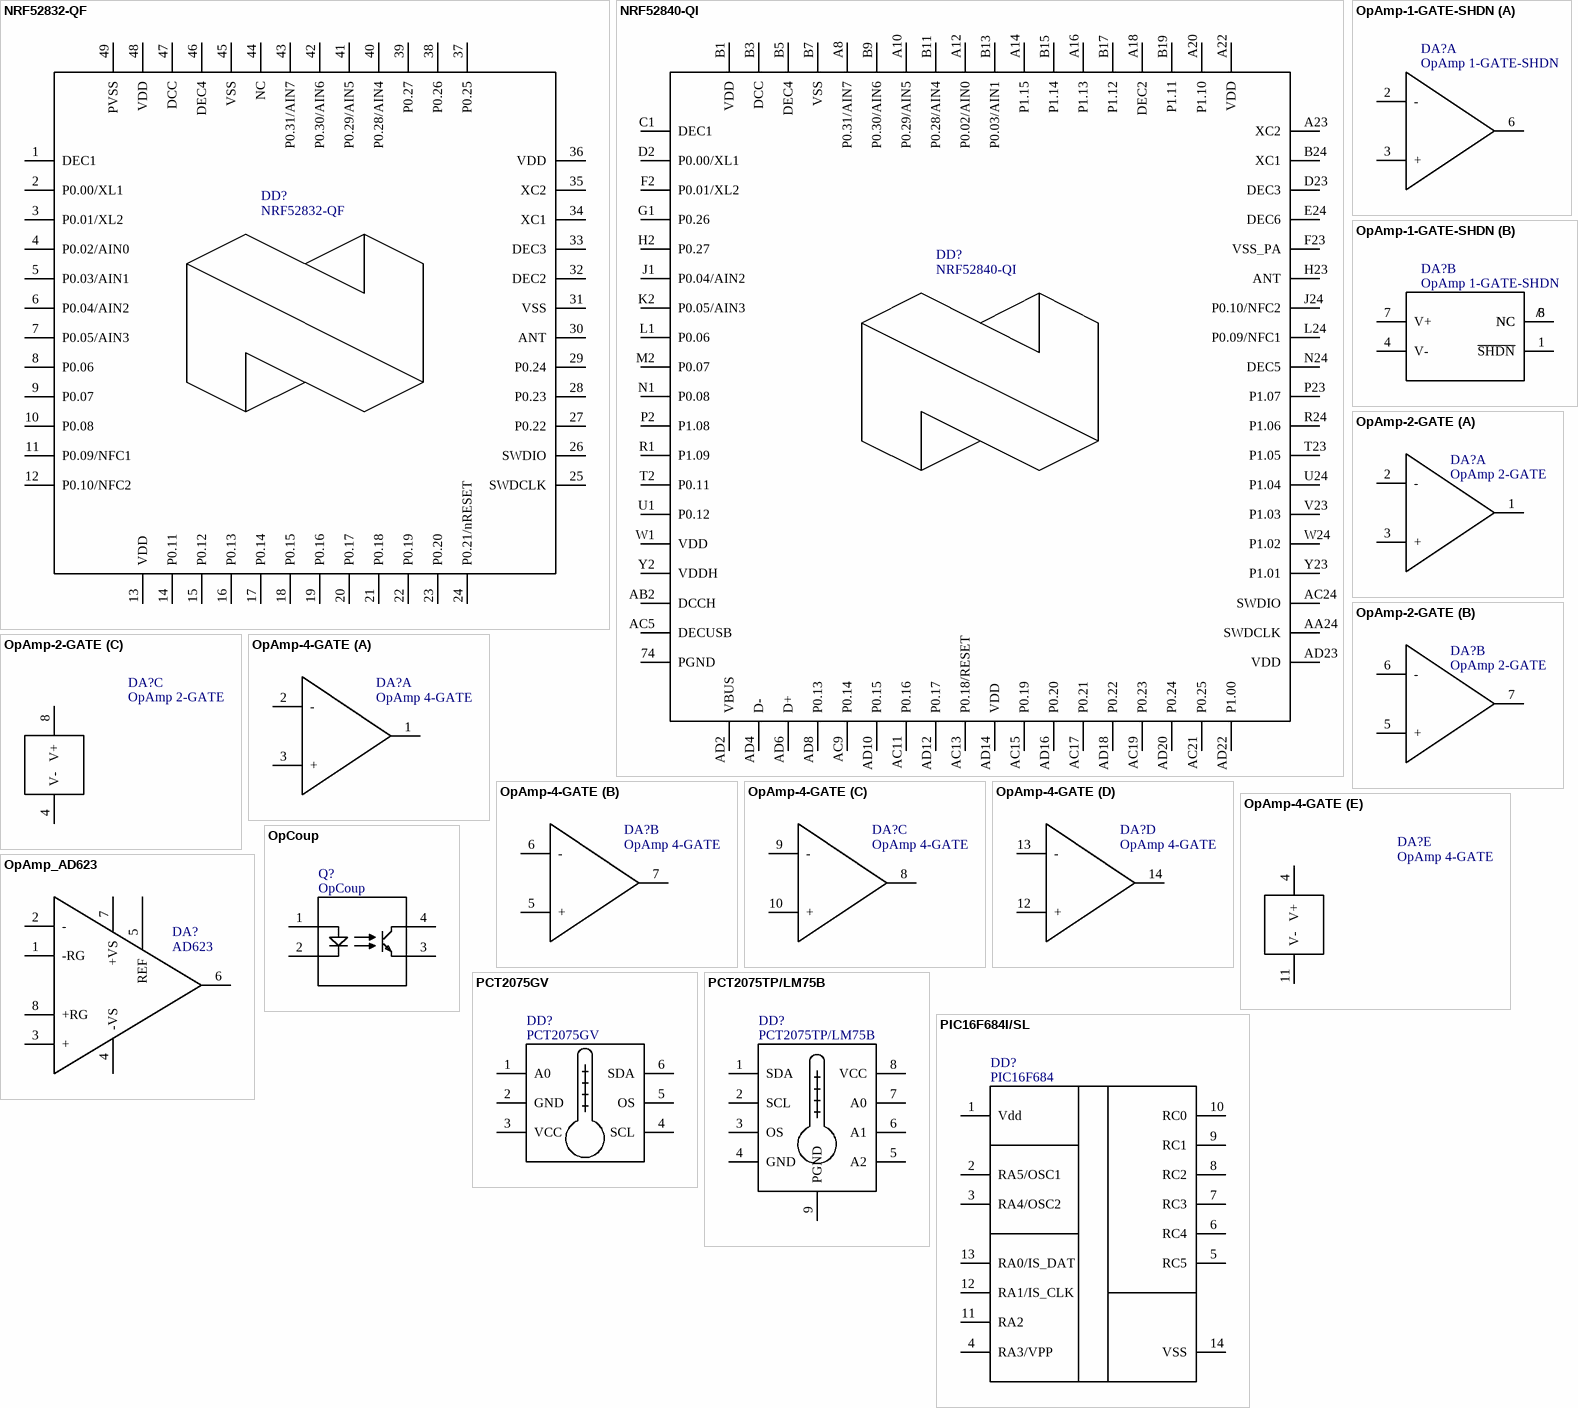
[diagram p5: symbols NRF52832-QF to PIC16F684I/SL]

## NRF52832-QF
designator DD?
pins: 1 DEC1, 2 P0.00/XL1, 3 P0.01/XL2, 4 P0.02/AIN0, 5 P0.03/AIN1, 6 P0.04/AIN2, 7 P0.05/AIN3, 8 P0.06, 9 P0.07, 10 P0.08, 11 P0.09/NFC1, 12 P0.10/NFC2, 13 VDD, 14 P0.11, 15 P0.12, 16 P0.13, 17 P0.14, 18 P0.15, 19 P0.16, 20 P0.17, 21 P0.18, 22 P0.19, 23 P0.20, 24 P0.21/nRESET, 25 SWDCLK, 26 SWDIO, 27 P0.22, 28 P0.23, 29 P0.24, 30 ANT, 31 VSS, 32 DEC2, 33 DEC3, 34 XC1, 35 XC2, 36 VDD, 37 P0.25, 38 P0.26, 39 P0.27, 40 P0.28/AIN4, 41 P0.29/AIN5, 42 P0.30/AIN6, 43 P0.31/AIN7, 44 NC, 45 VSS, 46 DEC4, 47 DCC, 48 VDD, 49 PVSS

## NRF52840-QI
designator DD?
pins: 74 PGND, A8 P0.31/AIN7, A10 P0.29/AIN5, A12 P0.02/AIN0, A14 P1.15, A16 P1.13, A18 DEC2, A20 P1.10, A22 VDD, A23 XC2, AA24 SWDCLK, AB2 DCCH, AC5 DECUSB, AC9 P0.14, AC11 P0.16, AC13 P0.18/RESET, AC15 P0.19, AC17 P0.21, AC19 P0.23, AC21 P0.25, AC24 SWDIO, AD2 VBUS, AD4 D-, AD6 D+, AD8 P0.13, AD10 P0.15, AD12 P0.17, AD14 VDD, AD16 P0.20, AD18 P0.22, AD20 P0.24, AD22 P1.00, AD23 VDD, B1 VDD, B3 DCC, B5 DEC4, B7 VSS, B9 P0.30/AIN6, B11 P0.28/AIN4, B13 P0.03/AIN1, B15 P1.14, B17 P1.12, B19 P1.11, B24 XC1, C1 DEC1, D2 P0.00/XL1, D23 DEC3, E24 DEC6, F2 P0.01/XL2, F23 VSS_PA, G1 P0.26, H2 P0.27, H23 ANT, J1 P0.04/AIN2, J24 P0.10/NFC2, K2 P0.05/AIN3, L1 P0.06, L24 P0.09/NFC1, M2 P0.07, N1 P0.08, N24 DEC5, P2 P1.08, P23 P1.07, R1 P1.09, R24 P1.06, T2 P0.11, T23 P1.05, U1 P0.12, U24 P1.04, V23 P1.03, W1 VDD, W24 P1.02, Y2 VDDH, Y23 P1.01

## OpAmp-1-GATE-SHDN
designator DA?, comment OpAmp 1-GATE-SHDN
1-Gate Operational Amplifier with shutdown pin
part A pins: 2 -, 3 +, 6 OUT
part B pins: 1 ~{SHDN}, 4 V-, 5 NC, 7 V+, 8 NC
part B text: /

## OpAmp-2-GATE
designator DA?, comment OpAmp 2-GATE
2-Gate Operational Amplifier
part A pins: 1 OUT, 2 -, 3 +
part B pins: 5 +, 6 -, 7 OUT
part C pins: 4 V-, 8 V+

## OpAmp-4-GATE
designator DA?, comment OpAmp 4-GATE
4-Gate Operational Amplifier
part A pins: 1 OUT, 2 -, 3 +
part B pins: 5 +, 6 -, 7 OUT
part C pins: 8 OUT, 9 -, 10 +
part D pins: 12 +, 13 -, 14 OUT
part E pins: 4 V+, 11 V-

## OpAmp_AD623
designator DA?, comment AD623
pins: 1 -RG, 2 -, 3 +, 4 -VS, 5 REF, 6 OUT, 7 +VS, 8 +RG

## OpCoup
designator Q?
pins: 1 A, 2 C, 3 E, 4 C

## PCT2075GV
designator DD?
Digital temperature sensor
pins: 1 A0, 2 GND, 3 VCC, 4 SCL, 5 OS, 6 SDA

## PCT2075TP/LM75B
designator DD?
Digital temperature sensor
pins: 1 SDA, 2 SCL, 3 OS, 4 GND, 5 A2, 6 A1, 7 A0, 8 VCC, 9 PGND

## PIC16F684I/SL
designator DD?, comment PIC16F684
PIC16F684I/SL
pins: 1 Vdd, 2 RA5/OSC1, 3 RA4/OSC2, 4 RA3/VPP, 5 RC5, 6 RC4, 7 RC3, 8 RC2, 9 RC1, 10 RC0, 11 RA2, 12 RA1/IS_CLK, 13 RA0/IS_DAT, 14 VSS

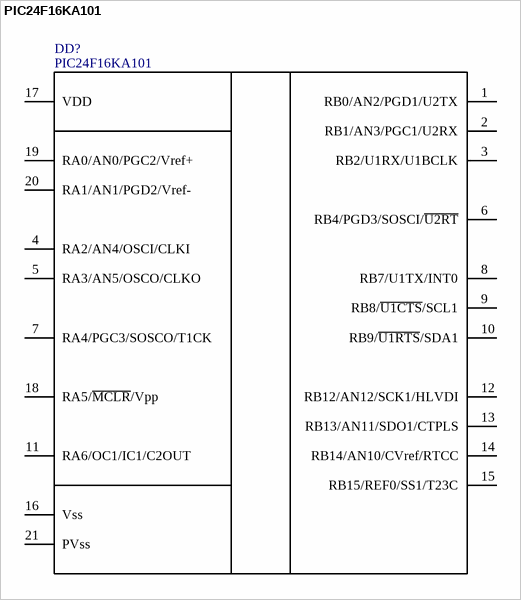
[diagram p6: symbol PIC24F16KA101]

## PIC24F16KA101
designator DD?
pins: 1 RB0/AN2/PGD1/U2TX, 2 RB1/AN3/PGC1/U2RX, 3 RB2/U1RX/U1BCLK, 4 RA2/AN4/OSCI/CLKI, 5 RA3/AN5/OSCO/CLKO, 6 RB4/PGD3/SOSCI/~{U2RT}, 7 RA4/PGC3/SOSCO/T1CK, 8 RB7/U1TX/INT0, 9 RB8/~{U1CTS}/SCL1, 10 RB9/~{U1RTS}/SDA1, 11 RA6/OC1/IC1/C2OUT, 12 RB12/AN12/SCK1/HLVDI, 13 RB13/AN11/SDO1/CTPLS, 14 RB14/AN10/CVref/RTCC, 15 RB15/REF0/SS1/T23C, 16 Vss, 17 VDD, 18 RA5/~{MCLR}/Vpp, 19 RA0/AN0/PGC2/Vref+, 20 RA1/AN1/PGD2/Vref-, 21 PVss

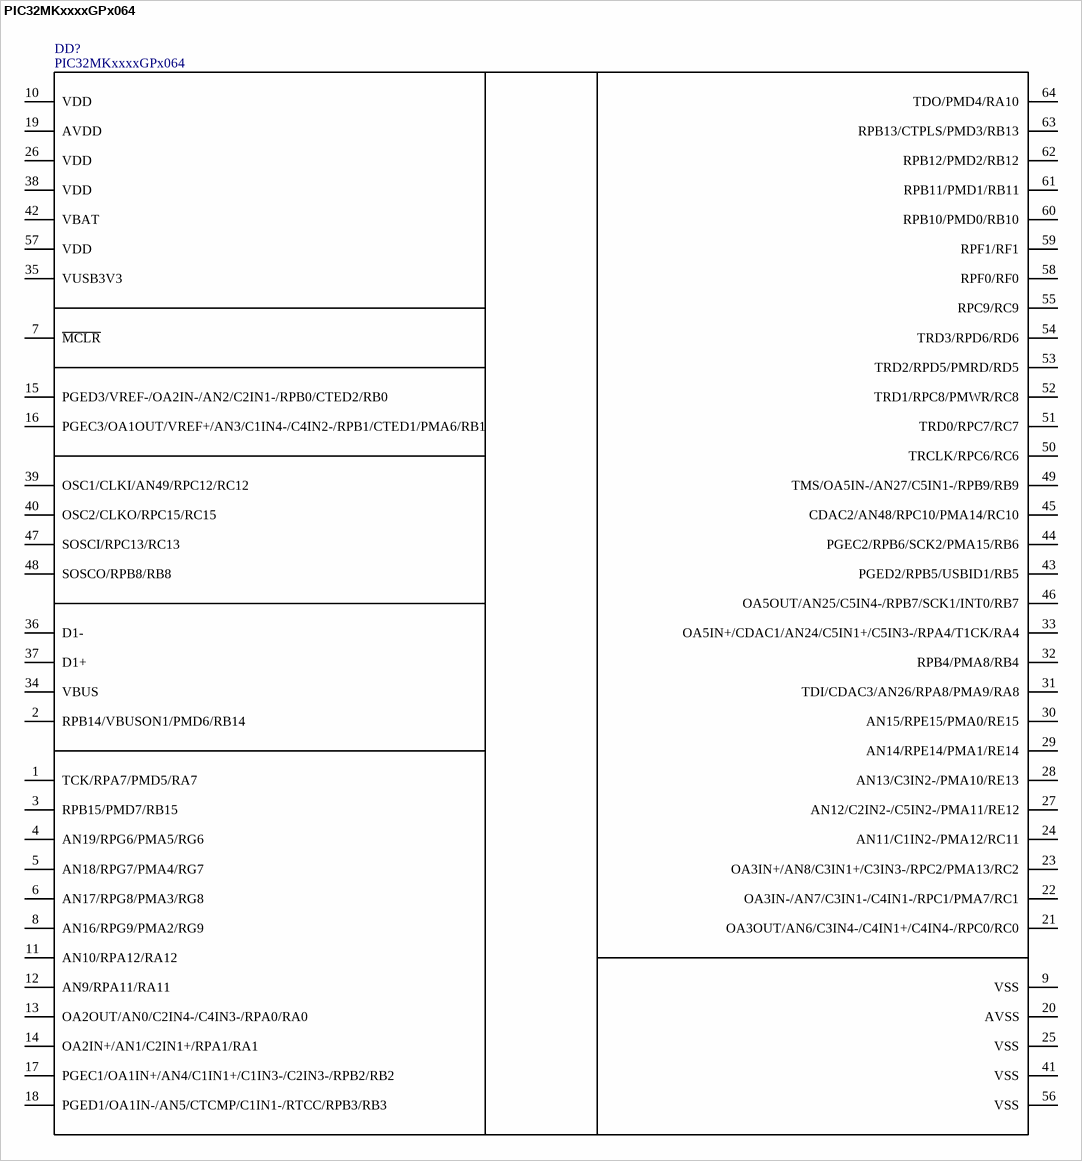
[diagram p7: symbol PIC32MKxxxxGPx064]

## PIC32MKxxxxGPx064
designator DD?
pins: 1 TCK/RPA7/PMD5/RA7, 2 RPB14/VBUSON1/PMD6/RB14, 3 RPB15/PMD7/RB15, 4 AN19/RPG6/PMA5/RG6, 5 AN18/RPG7/PMA4/RG7, 6 AN17/RPG8/PMA3/RG8, 7 ~{MCLR}, 8 AN16/RPG9/PMA2/RG9, 9 VSS, 10 VDD, 11 AN10/RPA12/RA12, 12 AN9/RPA11/RA11, 13 OA2OUT/AN0/C2IN4-/C4IN3-/RPA0/RA0, 14 OA2IN+/AN1/C2IN1+/RPA1/RA1, 15 PGED3/VREF-/OA2IN-/AN2/C2IN1-/RPB0/CTED2/RB0, 16 PGEC3/OA1OUT/VREF+/AN3/C1IN4-/C4IN2-/RPB1/CTED1/PMA6/RB1, 17 PGEC1/OA1IN+/AN4/C1IN1+/C1IN3-/C2IN3-/RPB2/RB2, 18 PGED1/OA1IN-/AN5/CTCMP/C1IN1-/RTCC/RPB3/RB3, 19 AVDD, 20 AVSS, 21 OA3OUT/AN6/C3IN4-/C4IN1+/C4IN4-/RPC0/RC0, 22 OA3IN-/AN7/C3IN1-/C4IN1-/RPC1/PMA7/RC1, 23 OA3IN+/AN8/C3IN1+/C3IN3-/RPC2/PMA13/RC2, 24 AN11/C1IN2-/PMA12/RC11, 25 VSS, 26 VDD, 27 AN12/C2IN2-/C5IN2-/PMA11/RE12, 28 AN13/C3IN2-/PMA10/RE13, 29 AN14/RPE14/PMA1/RE14, 30 AN15/RPE15/PMA0/RE15, 31 TDI/CDAC3/AN26/RPA8/PMA9/RA8, 32 RPB4/PMA8/RB4, 33 OA5IN+/CDAC1/AN24/C5IN1+/C5IN3-/RPA4/T1CK/RA4, 34 VBUS, 35 VUSB3V3, 36 D1-, 37 D1+, 38 VDD, 39 OSC1/CLKI/AN49/RPC12/RC12, 40 OSC2/CLKO/RPC15/RC15, 41 VSS, 42 VBAT, 43 PGED2/RPB5/USBID1/RB5, 44 PGEC2/RPB6/SCK2/PMA15/RB6, 45 CDAC2/AN48/RPC10/PMA14/RC10, 46 OA5OUT/AN25/C5IN4-/RPB7/SCK1/INT0/RB7, 47 SOSCI/RPC13/RC13, 48 SOSCO/RPB8/RB8, 49 TMS/OA5IN-/AN27/C5IN1-/RPB9/RB9, 50 TRCLK/RPC6/RC6, 51 TRD0/RPC7/RC7, 52 TRD1/RPC8/PMWR/RC8, 53 TRD2/RPD5/PMRD/RD5, 54 TRD3/RPD6/RD6, 55 RPC9/RC9, 56 VSS, 57 VDD, 58 RPF0/RF0, 59 RPF1/RF1, 60 RPB10/PMD0/RB10, 61 RPB11/PMD1/RB11, 62 RPB12/PMD2/RB12, 63 RPB13/CTPLS/PMD3/RB13, 64 TDO/PMD4/RA10

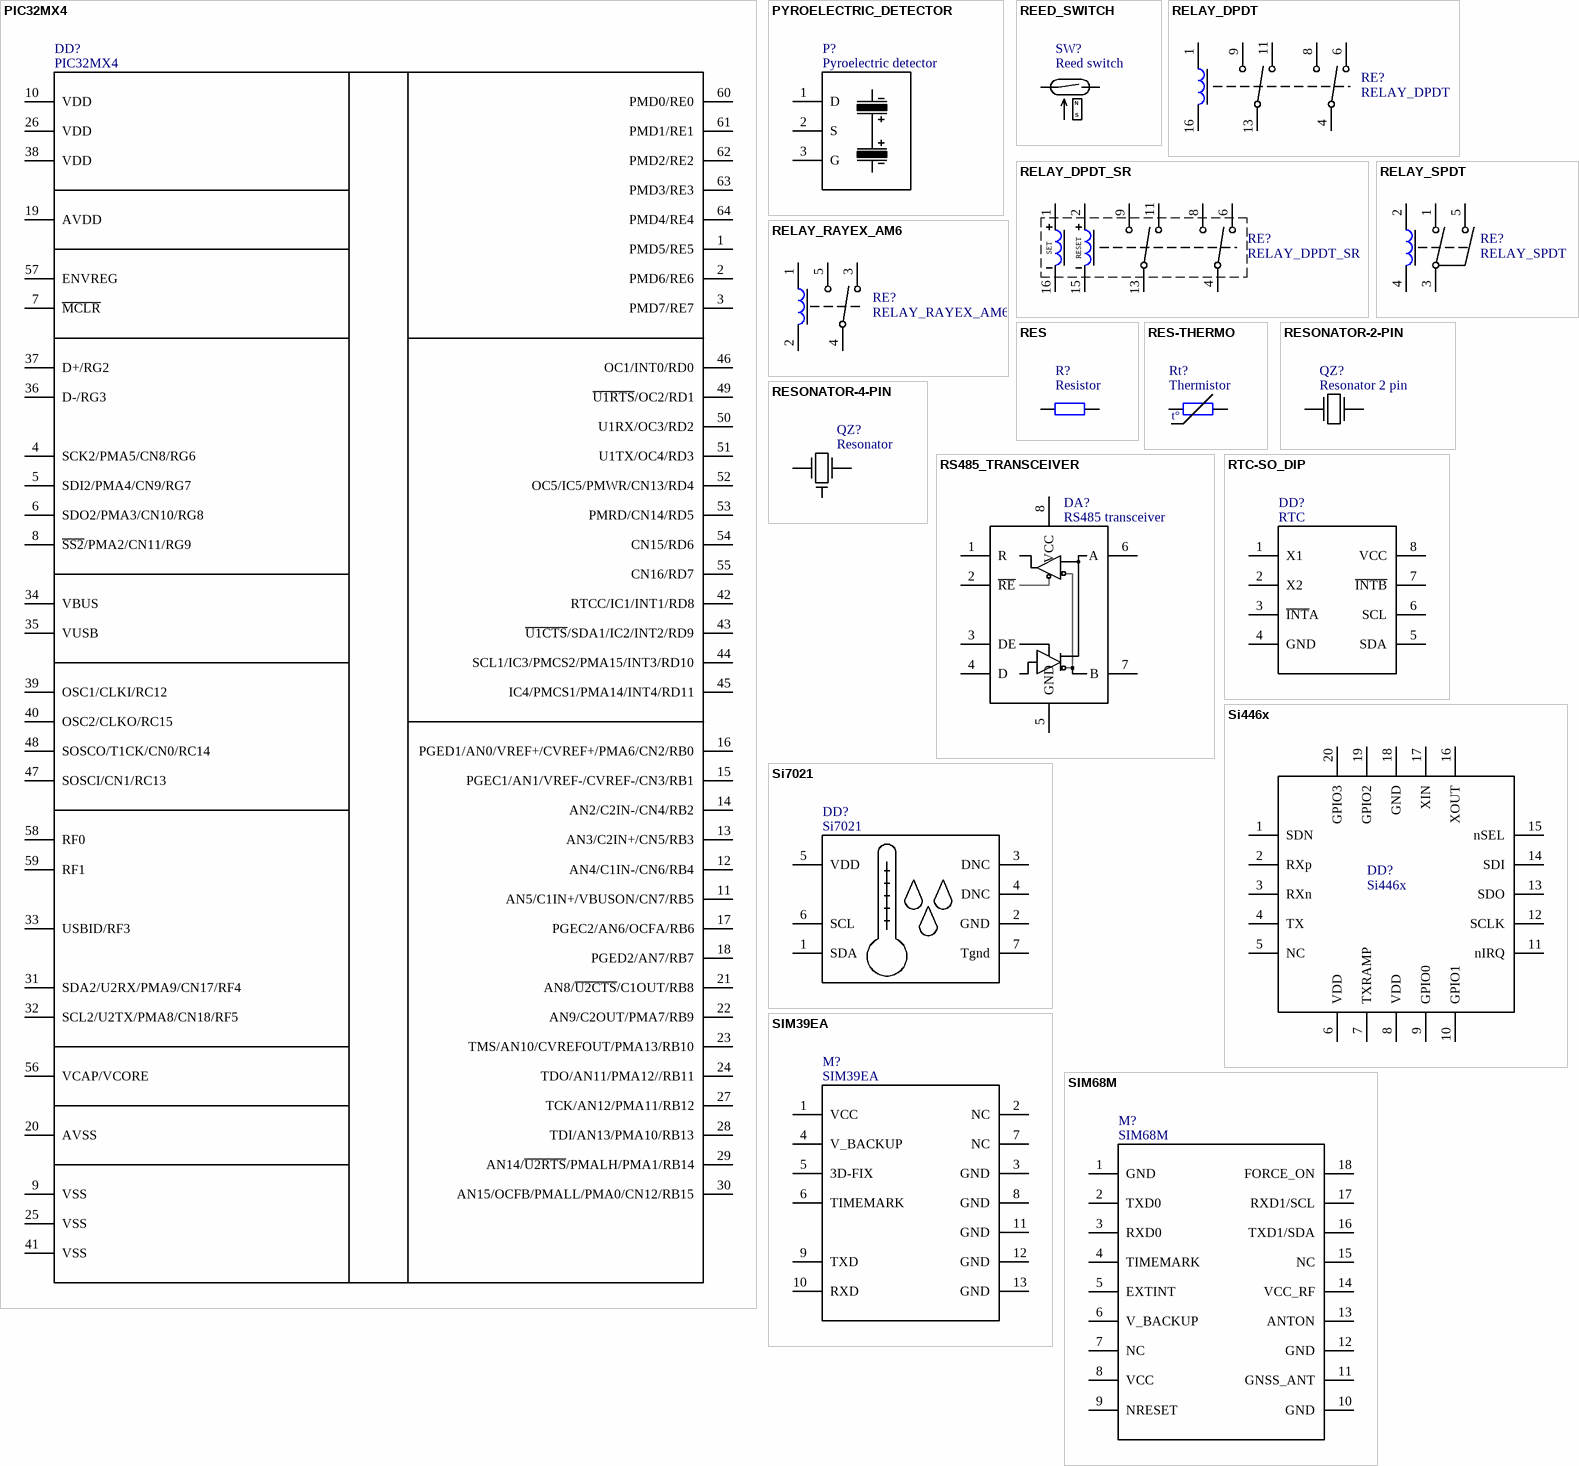
[diagram p8: symbols PIC32MX4 to SIM68M]

## PIC32MX4
designator DD?
pins: 1 PMD5/RE5, 2 PMD6/RE6, 3 PMD7/RE7, 4 SCK2/PMA5/CN8/RG6, 5 SDI2/PMA4/CN9/RG7, 6 SDO2/PMA3/CN10/RG8, 7 ~{MCLR}, 8 ~{SS2}/PMA2/CN11/RG9, 9 VSS, 10 VDD, 11 AN5/C1IN+/VBUSON/CN7/RB5, 12 AN4/C1IN-/CN6/RB4, 13 AN3/C2IN+/CN5/RB3, 14 AN2/C2IN-/CN4/RB2, 15 PGEC1/AN1/VREF-/CVREF-/CN3/RB1, 16 PGED1/AN0/VREF+/CVREF+/PMA6/CN2/RB0, 17 PGEC2/AN6/OCFA/RB6, 18 PGED2/AN7/RB7, 19 AVDD, 20 AVSS, 21 AN8/~{U2CTS}/C1OUT/RB8, 22 AN9/C2OUT/PMA7/RB9, 23 TMS/AN10/CVREFOUT/PMA13/RB10, 24 TDO/AN11/PMA12//RB11, 25 VSS, 26 VDD, 27 TCK/AN12/PMA11/RB12, 28 TDI/AN13/PMA10/RB13, 29 AN14/~{U2RTS}/PMALH/PMA1/RB14, 30 AN15/OCFB/PMALL/PMA0/CN12/RB15, 31 SDA2/U2RX/PMA9/CN17/RF4, 32 SCL2/U2TX/PMA8/CN18/RF5, 33 USBID/RF3, 34 VBUS, 35 VUSB, 36 D-/RG3, 37 D+/RG2, 38 VDD, 39 OSC1/CLKI/RC12, 40 OSC2/CLKO/RC15, 41 VSS, 42 RTCC/IC1/INT1/RD8, 43 ~{U1CTS}/SDA1/IC2/INT2/RD9, 44 SCL1/IC3/PMCS2/PMA15/INT3/RD10, 45 IC4/PMCS1/PMA14/INT4/RD11, 46 OC1/INT0/RD0, 47 SOSCI/CN1/RC13, 48 SOSCO/T1CK/CN0/RC14, 49 ~{U1RTS}/OC2/RD1, 50 U1RX/OC3/RD2, 51 U1TX/OC4/RD3, 52 OC5/IC5/PMWR/CN13/RD4, 53 PMRD/CN14/RD5, 54 CN15/RD6, 55 CN16/RD7, 56 VCAP/VCORE, 57 ENVREG, 58 RF0, 59 RF1, 60 PMD0/RE0, 61 PMD1/RE1, 62 PMD2/RE2, 63 PMD3/RE3, 64 PMD4/RE4

## PYROELECTRIC_DETECTOR
designator P?, comment Pyroelectric detector
pins: 1 D, 2 S, 3 G

## REED_SWITCH
designator SW?, comment Reed switch
pins: 1, 2
text: N; S

## RELAY_DPDT
designator RE?
Double pole - double throw relay
pins: 1 COIL1, 4 C2, 6, 8, 9, 11, 13 C1, 16 COIL2

## RELAY_DPDT_SR
designator RE?
Double pole - double throw relay with "set" and "reset" coils
pins: 1 SET+, 2 RES+, 4 C2, 6, 8, 9, 11, 13 C1, 15 RES-, 16 SET-
text: SET; RESET

## RELAY_RAYEX_AM6
designator RE?
pins: 1 C1, 2 C2, 3, 4 C, 5

## RELAY_SPDT
designator RE?
pins: 1, 2 C1, 3, 4 C2, 5

## RES
designator R?, comment Resistor
Simple resistor
pins: 1, 2

## RES-THERMO
designator Rt?, comment Thermistor
pins: 1, 2
text: t°

## RESONATOR-2-PIN
designator QZ?, comment Resonator 2 pin
Resonator
pins: 1, 2

## RESONATOR-4-PIN
designator QZ?, comment Resonator
1 and 3 pin connected to device. 2 and 4 pin connected to GND.
pins: 1, 2, 3, 4

## RS485_TRANSCEIVER
designator DA?, comment RS485 transceiver
pins: 1 R, 2 ~{RE}, 3 DE, 4 D, 5 GND, 6 A, 7 B, 8 VCC

## RTC-SO_DIP
designator DD?, comment RTC
pins: 1 X1, 2 X2, 3 ~{INT}A, 4 GND, 5 SDA, 6 SCL, 7 ~{INTB}, 8 VCC

## Si446x
designator DD?
Transceivers covering the sub-GHz frequency bands from 119 to 1050 MHz.
pins: 1 SDN, 2 RXp, 3 RXn, 4 TX, 5 NC, 6 VDD, 7 TXRAMP, 8 VDD, 9 GPIO0, 10 GPIO1, 11 nIRQ, 12 SCLK, 13 SDO, 14 SDI, 15 nSEL, 16 XOUT, 17 XIN, 18 GND, 19 GPIO2, 20 GPIO3, 21 PADDLE_GND hidden to GND

## Si7021
designator DD?
Humidity and Temperature Sensor
pins: 1 SDA, 2 GND, 3 DNC, 4 DNC, 5 VDD, 6 SCL, 7 Tgnd

## SIM39EA
designator M?
pins: 1 VCC, 2 NC, 3 GND, 4 V_BACKUP, 5 3D-FIX, 6 TIMEMARK, 7 NC, 8 GND, 9 TXD, 10 RXD, 11 GND, 12 GND, 13 GND

## SIM68M
designator M?
pins: 1 GND, 2 TXD0, 3 RXD0, 4 TIMEMARK, 5 EXTINT, 6 V_BACKUP, 7 NC, 8 VCC, 9 NRESET, 10 GND, 11 GNSS_ANT, 12 GND, 13 ANTON, 14 VCC_RF, 15 NC, 16 TXD1/SDA, 17 RXD1/SCL, 18 FORCE_ON

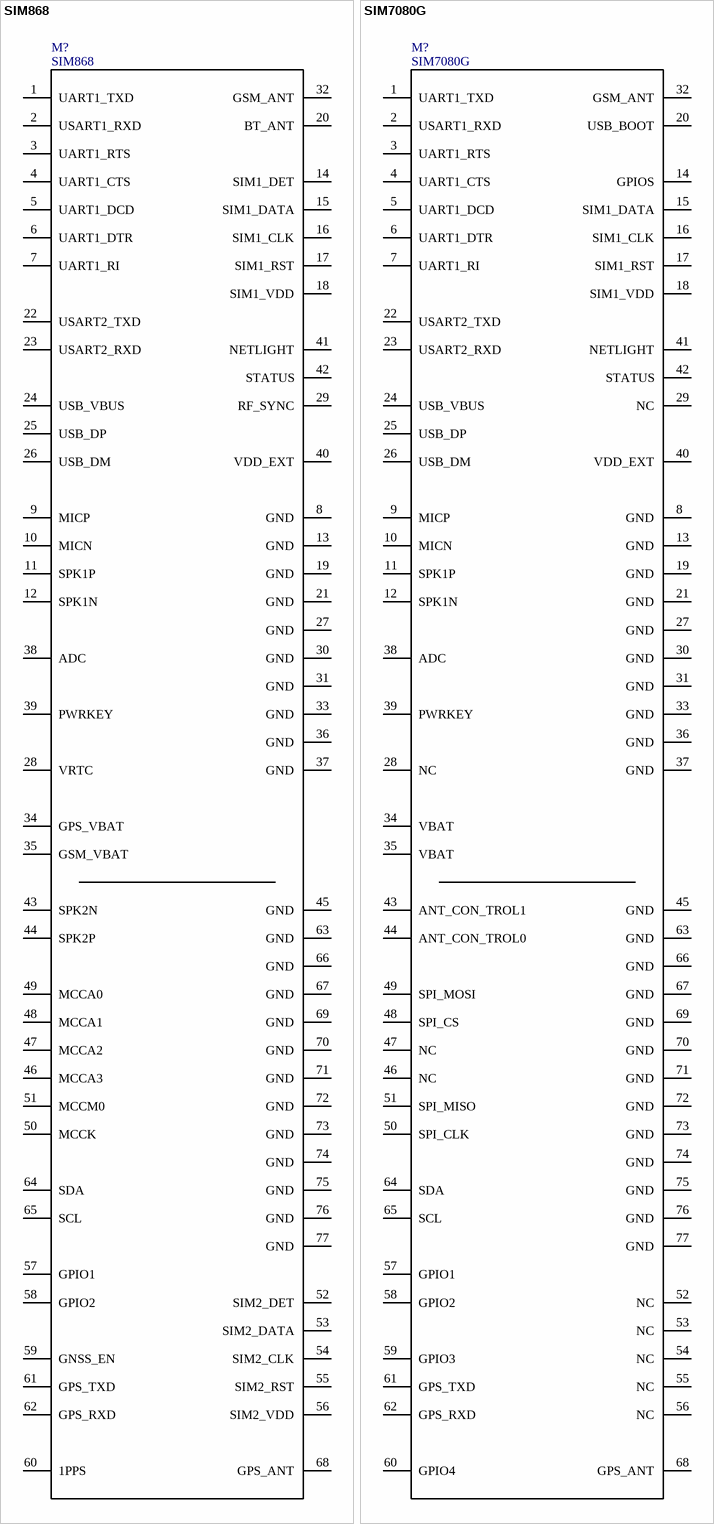
[diagram p9: symbols SIM868 to SIM7080G]

## SIM868
designator M?
GSM/GPS Module
pins: 1 UART1_TXD, 2 USART1_RXD, 3 UART1_RTS, 4 UART1_CTS, 5 UART1_DCD, 6 UART1_DTR, 7 UART1_RI, 8 GND, 9 MICP, 10 MICN, 11 SPK1P, 12 SPK1N, 13 GND, 14 SIM1_DET, 15 SIM1_DATA, 16 SIM1_CLK, 17 SIM1_RST, 18 SIM1_VDD, 19 GND, 20 BT_ANT, 21 GND, 22 USART2_TXD, 23 USART2_RXD, 24 USB_VBUS, 25 USB_DP, 26 USB_DM, 27 GND, 28 VRTC, 29 RF_SYNC, 30 GND, 31 GND, 32 GSM_ANT, 33 GND, 34 GPS_VBAT, 35 GSM_VBAT, 36 GND, 37 GND, 38 ADC, 39 PWRKEY, 40 VDD_EXT, 41 NETLIGHT, 42 STATUS, 43 SPK2N, 44 SPK2P, 45 GND, 46 MCCA3, 47 MCCA2, 48 MCCA1, 49 MCCA0, 50 MCCK, 51 MCCM0, 52 SIM2_DET, 53 SIM2_DATA, 54 SIM2_CLK, 55 SIM2_RST, 56 SIM2_VDD, 57 GPIO1, 58 GPIO2, 59 GNSS_EN, 60 1PPS, 61 GPS_TXD, 62 GPS_RXD, 63 GND, 64 SDA, 65 SCL, 66 GND, 67 GND, 68 GPS_ANT, 69 GND, 70 GND, 71 GND, 72 GND, 73 GND, 74 GND, 75 GND, 76 GND, 77 GND

## SIM7080G
designator M?
NB-IoT Module
pins: 1 UART1_TXD, 2 USART1_RXD, 3 UART1_RTS, 4 UART1_CTS, 5 UART1_DCD, 6 UART1_DTR, 7 UART1_RI, 8 GND, 9 MICP, 10 MICN, 11 SPK1P, 12 SPK1N, 13 GND, 14 GPIOS, 15 SIM1_DATA, 16 SIM1_CLK, 17 SIM1_RST, 18 SIM1_VDD, 19 GND, 20 USB_BOOT, 21 GND, 22 USART2_TXD, 23 USART2_RXD, 24 USB_VBUS, 25 USB_DP, 26 USB_DM, 27 GND, 28 NC, 29 NC, 30 GND, 31 GND, 32 GSM_ANT, 33 GND, 34 VBAT, 35 VBAT, 36 GND, 37 GND, 38 ADC, 39 PWRKEY, 40 VDD_EXT, 41 NETLIGHT, 42 STATUS, 43 ANT_CON_TROL1, 44 ANT_CON_TROL0, 45 GND, 46 NC, 47 NC, 48 SPI_CS, 49 SPI_MOSI, 50 SPI_CLK, 51 SPI_MISO, 52 NC, 53 NC, 54 NC, 55 NC, 56 NC, 57 GPIO1, 58 GPIO2, 59 GPIO3, 60 GPIO4, 61 GPS_TXD, 62 GPS_RXD, 63 GND, 64 SDA, 65 SCL, 66 GND, 67 GND, 68 GPS_ANT, 69 GND, 70 GND, 71 GND, 72 GND, 73 GND, 74 GND, 75 GND, 76 GND, 77 GND

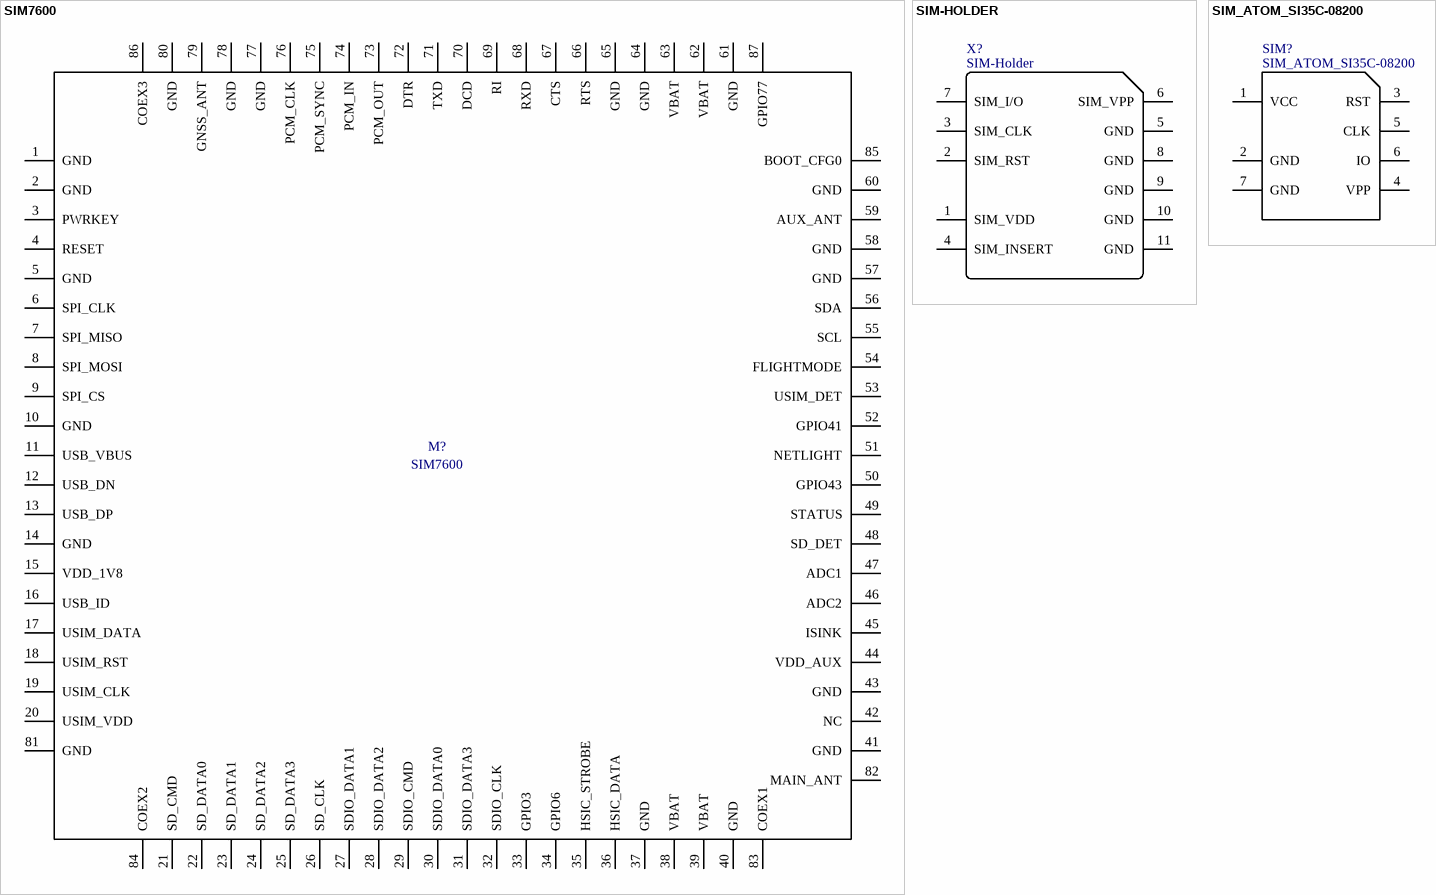
[diagram p10: symbols SIM7600 to SIM_ATOM_SI35C-08200]

## SIM7600
designator M?
pins: 1 GND, 2 GND, 3 PWRKEY, 4 RESET, 5 GND, 6 SPI_CLK, 7 SPI_MISO, 8 SPI_MOSI, 9 SPI_CS, 10 GND, 11 USB_VBUS, 12 USB_DN, 13 USB_DP, 14 GND, 15 VDD_1V8, 16 USB_ID, 17 USIM_DATA, 18 USIM_RST, 19 USIM_CLK, 20 USIM_VDD, 21 SD_CMD, 22 SD_DATA0, 23 SD_DATA1, 24 SD_DATA2, 25 SD_DATA3, 26 SD_CLK, 27 SDIO_DATA1, 28 SDIO_DATA2, 29 SDIO_CMD, 30 SDIO_DATA0, 31 SDIO_DATA3, 32 SDIO_CLK, 33 GPIO3, 34 GPIO6, 35 HSIC_STROBE, 36 HSIC_DATA, 37 GND, 38 VBAT, 39 VBAT, 40 GND, 41 GND, 42 NC, 43 GND, 44 VDD_AUX, 45 ISINK, 46 ADC2, 47 ADC1, 48 SD_DET, 49 STATUS, 50 GPIO43, 51 NETLIGHT, 52 GPIO41, 53 USIM_DET, 54 FLIGHTMODE, 55 SCL, 56 SDA, 57 GND, 58 GND, 59 AUX_ANT, 60 GND, 61 GND, 62 VBAT, 63 VBAT, 64 GND, 65 GND, 66 RTS, 67 CTS, 68 RXD, 69 RI, 70 DCD, 71 TXD, 72 DTR, 73 PCM_OUT, 74 PCM_IN, 75 PCM_SYNC, 76 PCM_CLK, 77 GND, 78 GND, 79 GNSS_ANT, 80 GND, 81 GND, 82 MAIN_ANT, 83 COEX1, 84 COEX2, 85 BOOT_CFG0, 86 COEX3, 87 GPIO77

## SIM-HOLDER
designator X?, comment SIM-Holder
pins: 1 SIM_VDD, 2 SIM_RST, 3 SIM_CLK, 4 SIM_INSERT, 5 GND, 6 SIM_VPP, 7 SIM_I/O, 8 GND, 9 GND, 10 GND, 11 GND

## SIM_ATOM_SI35C-08200
designator SIM?
pins: 1 VCC, 2 GND, 3 RST, 4 VPP, 5 CLK, 6 IO, 7 GND

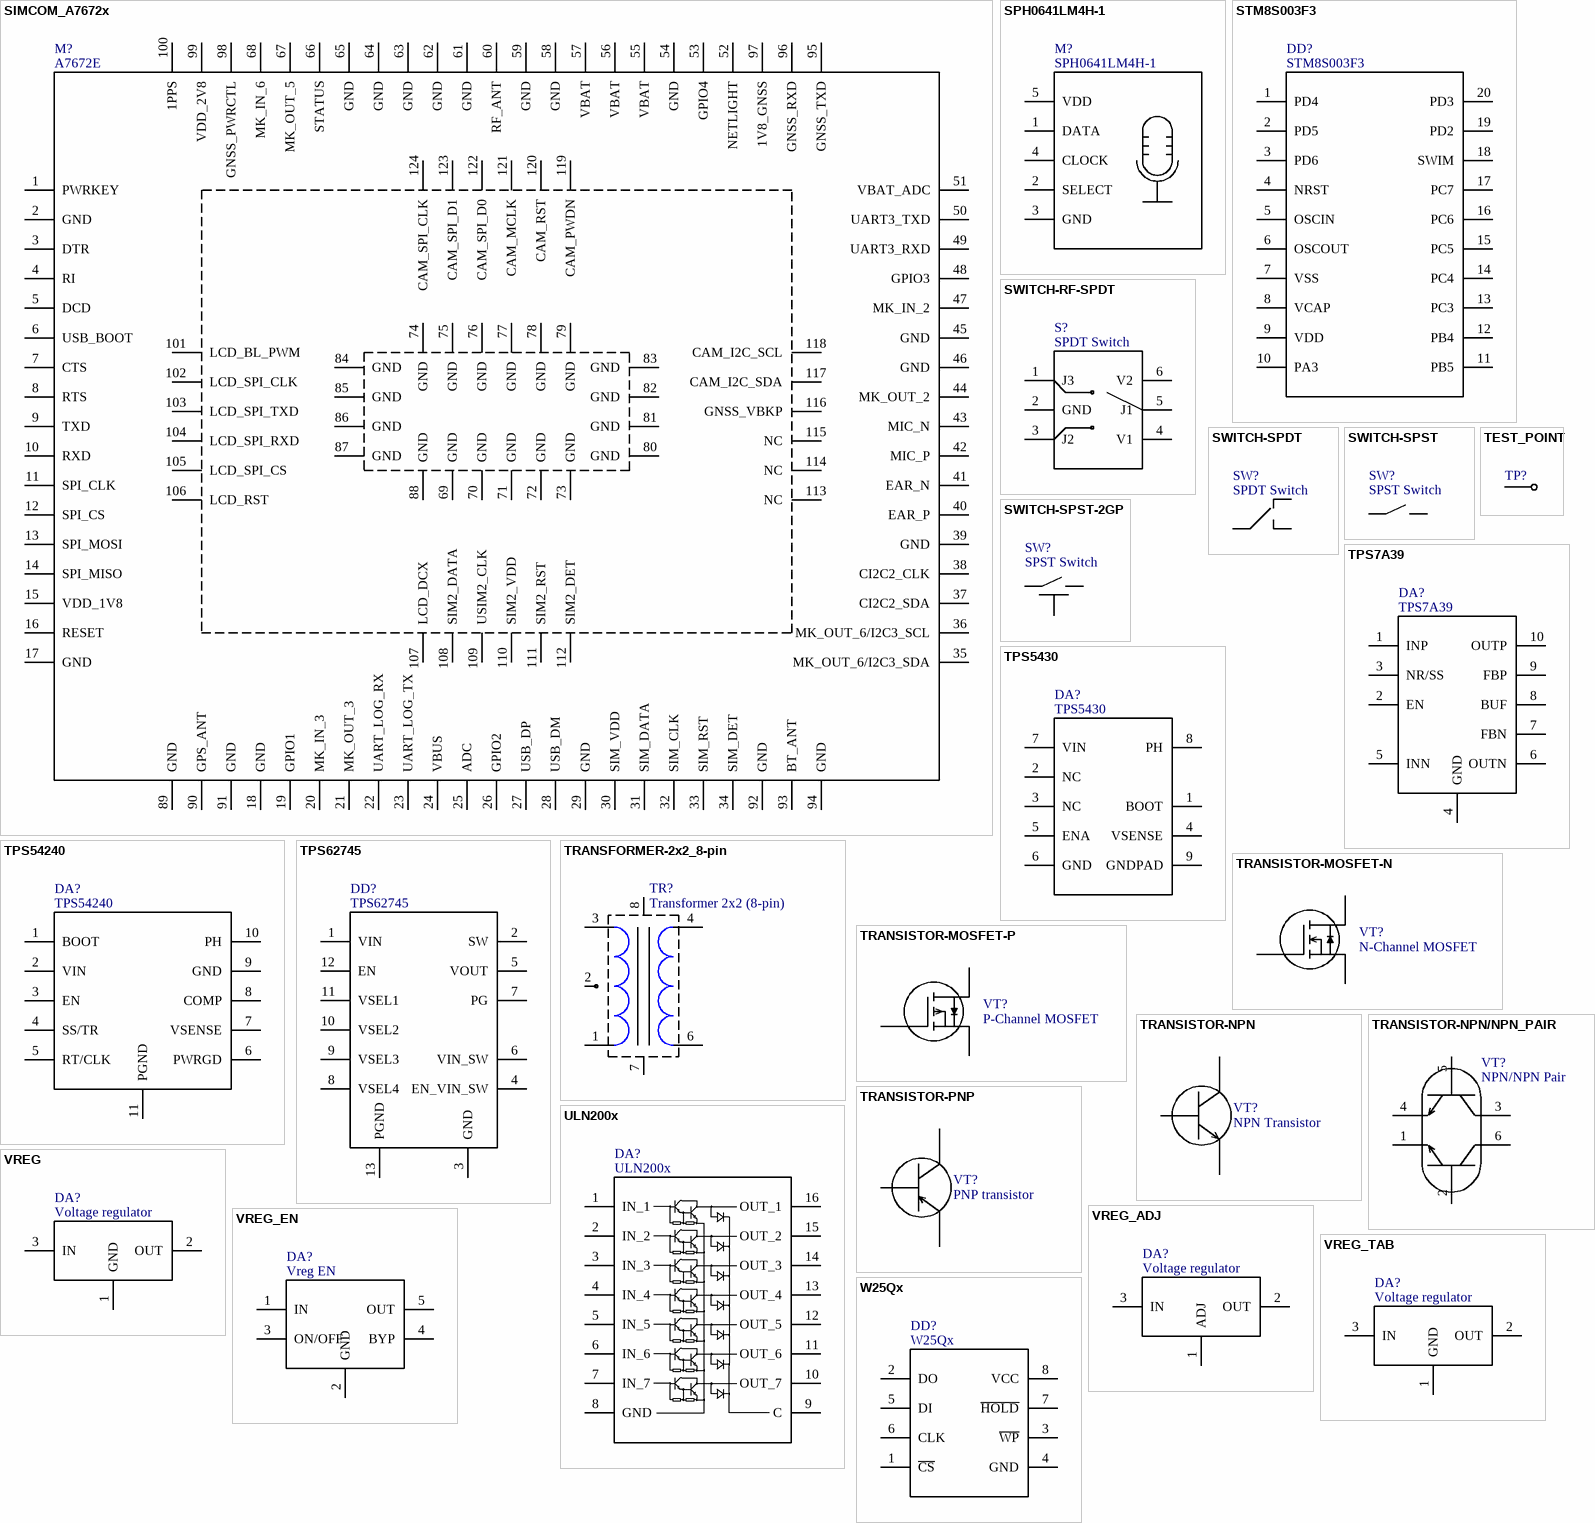
[diagram p11: symbols SIMCOM_A7672x to W25Qx]

## SIMCOM_A7672x
designator M?, comment A7672E
pins: 1 PWRKEY, 2 GND, 3 DTR, 4 RI, 5 DCD, 6 USB_BOOT, 7 CTS, 8 RTS, 9 TXD, 10 RXD, 11 SPI_CLK, 12 SPI_CS, 13 SPI_MOSI, 14 SPI_MISO, 15 VDD_1V8, 16 RESET, 17 GND, 18 GND, 19 GPIO1, 20 MK_IN_3, 21 MK_OUT_3, 22 UART_LOG_RX, 23 UART_LOG_TX, 24 VBUS, 25 ADC, 26 GPIO2, 27 USB_DP, 28 USB_DM, 29 GND, 30 SIM_VDD, 31 SIM_DATA, 32 SIM_CLK, 33 SIM_RST, 34 SIM_DET, 35 MK_OUT_6/I2C3_SDA, 36 MK_OUT_6/I2C3_SCL, 37 CI2C2_SDA, 38 CI2C2_CLK, 39 GND, 40 EAR_P, 41 EAR_N, 42 MIC_P, 43 MIC_N, 44 MK_OUT_2, 45 GND, 46 GND, 47 MK_IN_2, 48 GPIO3, 49 UART3_RXD, 50 UART3_TXD, 51 VBAT_ADC, 52 NETLIGHT, 53 GPIO4, 54 GND, 55 VBAT, 56 VBAT, 57 VBAT, 58 GND, 59 GND, 60 RF_ANT, 61 GND, 62 GND, 63 GND, 64 GND, 65 GND, 66 STATUS, 67 MK_OUT_5, 68 MK_IN_6, 69 GND, 70 GND, 71 GND, 72 GND, 73 GND, 74 GND, 75 GND, 76 GND, 77 GND, 78 GND, 79 GND, 80 GND, 81 GND, 82 GND, 83 GND, 84 GND, 85 GND, 86 GND, 87 GND, 88 GND, 89 GND, 90 GPS_ANT, 91 GND, 92 GND, 93 BT_ANT, 94 GND, 95 GNSS_TXD, 96 GNSS_RXD, 97 1V8_GNSS, 98 GNSS_PWRCTL, 99 VDD_2V8, 100 1PPS, 101 LCD_BL_PWM, 102 LCD_SPI_CLK, 103 LCD_SPI_TXD, 104 LCD_SPI_RXD, 105 LCD_SPI_CS, 106 LCD_RST, 107 LCD_DCX, 108 SIM2_DATA, 109 USIM2_CLK, 110 SIM2_VDD, 111 SIM2_RST, 112 SIM2_DET, 113 NC, 114 NC, 115 NC, 116 GNSS_VBKP, 117 CAM_I2C_SDA, 118 CAM_I2C_SCL, 119 CAM_PWDN, 120 CAM_RST, 121 CAM_MCLK, 122 CAM_SPI_D0, 123 CAM_SPI_D1, 124 CAM_SPI_CLK

## SPH0641LM4H-1
designator M?
pins: 1 DATA, 2 SELECT, 3 GND, 4 CLOCK, 5 VDD

## STM8S003F3
designator DD?
Value line 8-bit MCU
pins: 1 PD4, 2 PD5, 3 PD6, 4 NRST, 5 OSCIN, 6 OSCOUT, 7 VSS, 8 VCAP, 9 VDD, 10 PA3, 11 PB5, 12 PB4, 13 PC3, 14 PC4, 15 PC5, 16 PC6, 17 PC7, 18 SWIM, 19 PD2, 20 PD3

## SWITCH-RF-SPDT
designator S?, comment SPDT Switch
Single Pole, Double Throw
pins: 1 J3, 2 GND, 3 J2, 4 V1, 5 J1, 6 V2

## SWITCH-SPDT
designator SW?, comment SPDT Switch
Single Pole, Double Throw
pins: 1, 2, 3

## SWITCH-SPST
designator SW?, comment SPST Switch
Single Pole, Single Throw Switch
pins: 1, 2

## SWITCH-SPST-2GP
designator SW?, comment SPST Switch
Single Pole, Single Throw Switch, 2 pin GND
pins: 1, 2, 3 GND, 4 GND

## TEST_POINT
designator TP?  (no BOM)
pins: 1

## TPS7A39
designator DA?
Pos/Neg LDO Voltage Regulator
pins: 1 INP, 2 EN, 3 NR/SS, 4 GND, 5 INN, 6 OUTN, 7 FBN, 8 BUF, 9 FBP, 10 OUTP, 11 GND hidden to GND

## TPS5430
designator DA?
pins: 1 BOOT, 2 NC, 3 NC, 4 VSENSE, 5 ENA, 6 GND, 7 VIN, 8 PH, 9 GNDPAD

## TPS54240
designator DA?
42-V, 2.5-A, step-down regulator
pins: 1 BOOT, 2 VIN, 3 EN, 4 SS/TR, 5 RT/CLK, 6 PWRGD, 7 VSENSE, 8 COMP, 9 GND, 10 PH, 11 PGND

## TPS62745
designator DD?
Ultra Low Power Step Down
pins: 1 VIN, 2 SW, 3 GND, 4 EN_VIN_SW, 5 VOUT, 6 VIN_SW, 7 PG, 8 VSEL4, 9 VSEL3, 10 VSEL2, 11 VSEL1, 12 EN, 13 PGND

## TRANSFORMER-2x2_8-pin
designator TR?, comment Transformer 2x2 (8-pin)
pins: 1, 2, 3, 4, 6, 7, 8

## TRANSISTOR-MOSFET-N
designator VT?, comment N-Channel MOSFET
pins: 1 Gate, 2 Source, 3 Drain

## TRANSISTOR-MOSFET-P
designator VT?, comment P-Channel MOSFET
pins: 1 Gate, 2 Source, 3 Drain

## TRANSISTOR-NPN
designator VT?, comment NPN Transistor
pins: 1 Base, 2 Emitter, 3 Collector

## TRANSISTOR-NPN/NPN_PAIR
designator VT?, comment NPN/NPN Pair
Transistor Pair NPN/NPN
pins: 1 Emitter, 2 Base, 3 Collector, 4 Emitter, 5 Base, 6 Collector

## TRANSISTOR-PNP
designator VT?, comment PNP transistor
pins: 1 Base, 2 Emitter, 3 Collector

## ULN200x
designator DA?
pins: 1 IN_1, 2 IN_2, 3 IN_3, 4 IN_4, 5 IN_5, 6 IN_6, 7 IN_7, 8 GND, 9 C, 10 OUT_7, 11 OUT_6, 12 OUT_5, 13 OUT_4, 14 OUT_3, 15 OUT_2, 16 OUT_1

## VREG
designator DA?, comment Voltage regulator
pins: 1 GND, 2 OUT, 3 IN

## VREG_ADJ
designator DA?, comment Voltage regulator
pins: 1 ADJ, 2 OUT, 3 IN, 4 OUT

## VREG_EN
designator DA?, comment Vreg EN
Voltage Regulator with ENABLE pin
pins: 1 IN, 2 GND, 3 ON/OFF, 4 BYP, 5 OUT

## VREG_TAB
designator DA?, comment Voltage regulator
Voltage regulator with tab pin
pins: 1 GND, 2 OUT, 3 IN, 4 OUT

## W25Qx
designator DD?
Serial Flash Memory
pins: 1 ~{CS}, 2 DO, 3 ~{WP}, 4 GND, 5 DI, 6 CLK, 7 ~{HOLD}, 8 VCC